# Altium integrated library CDE_Library.IntLib: 6171 symbols (part 2 of 25)
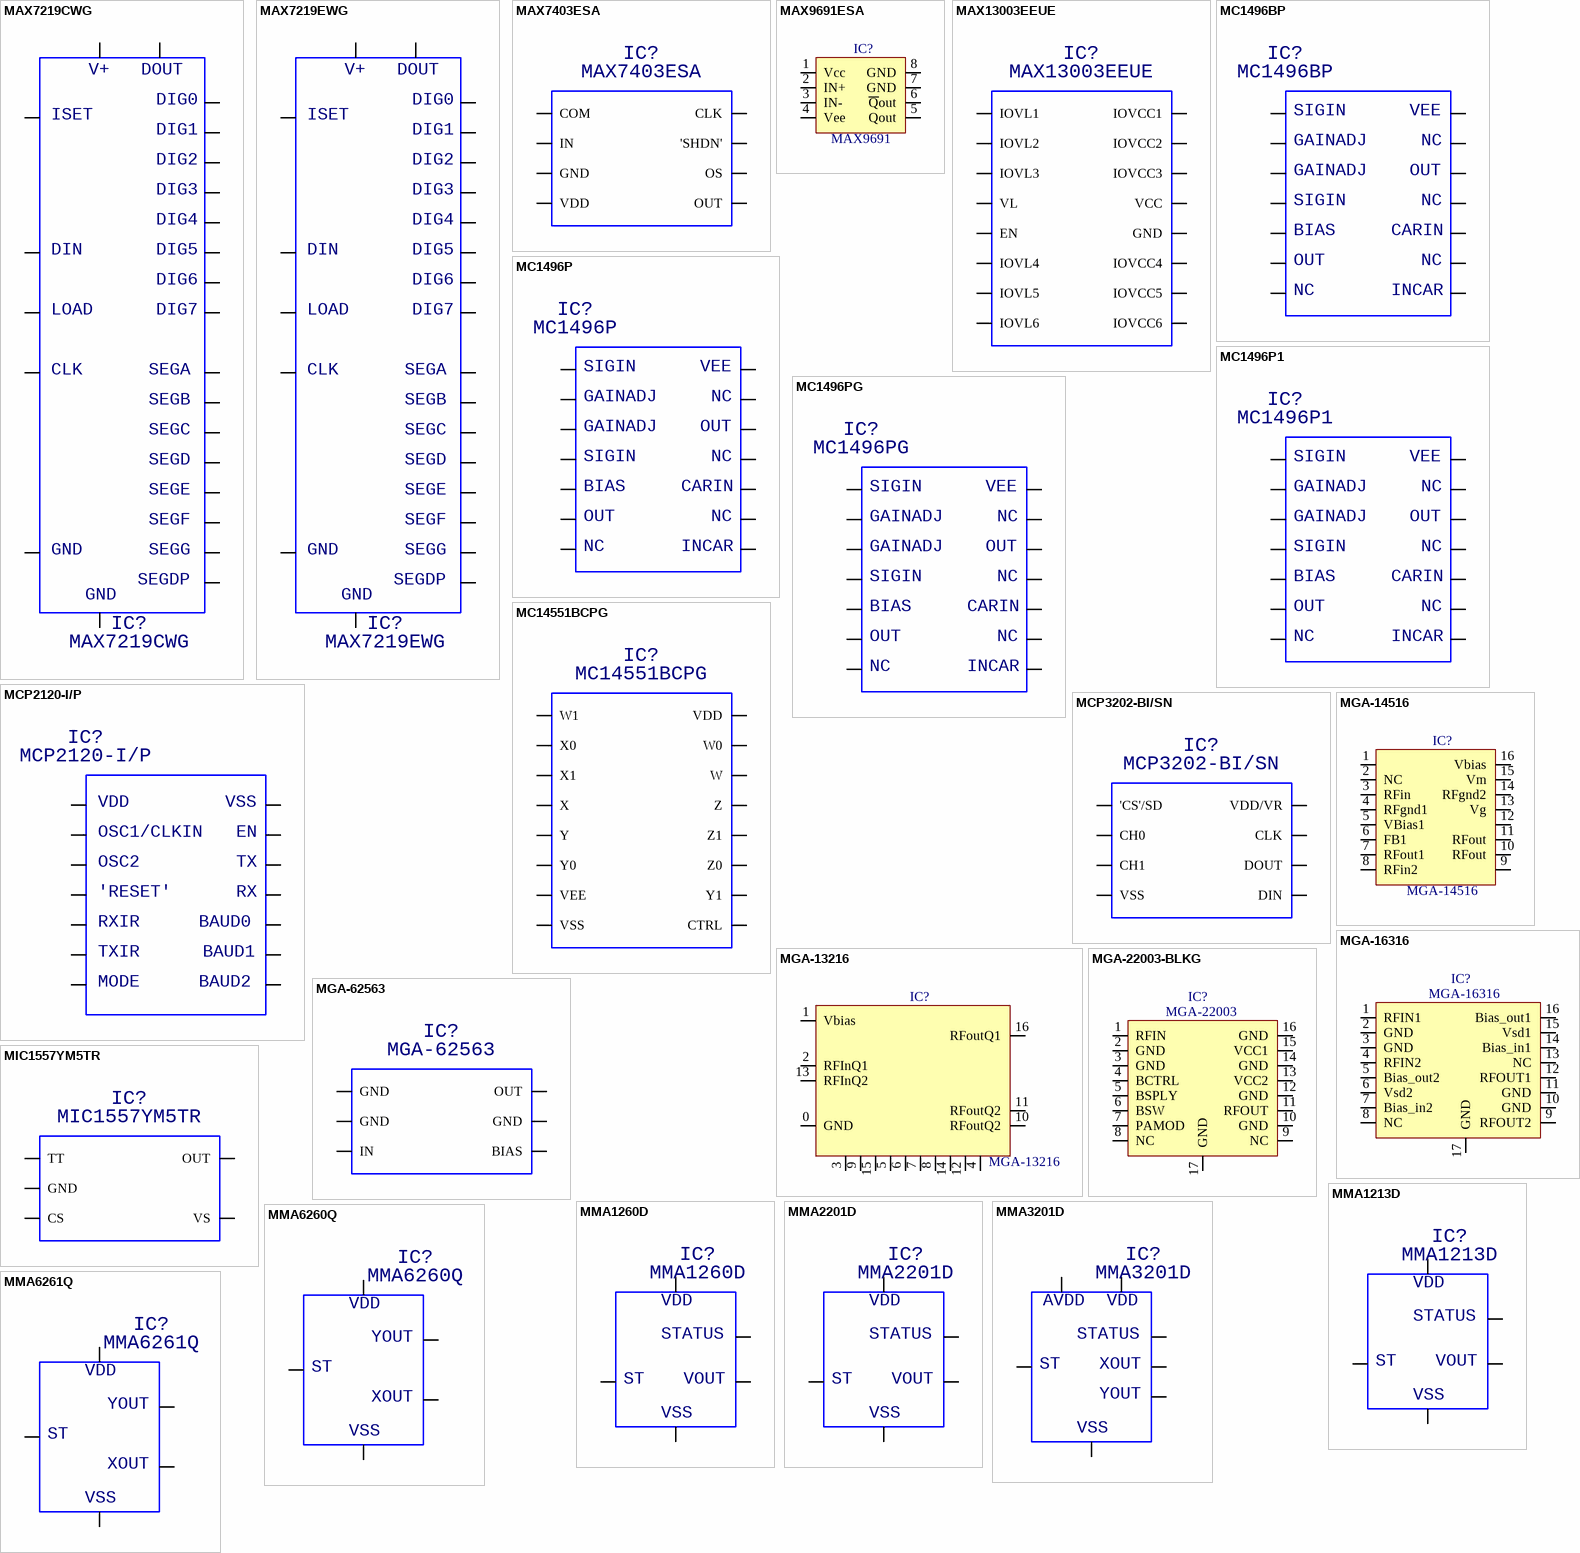
[diagram p258: symbols MAX7219CWG to MMA6261Q]

## MC1496BP
designator IC?
balanced modulators - demodulators
footprint icv DIP14-300
pins: 1, 2, 3, 4, 5, 6, 7, 8, 9, 10, 11, 12, 13, 14
text: SIGIN; VEE; GAINADJ; NC; OUT; BIAS; CARIN; INCAR

## MC1496P
designator IC?
balanced modulators - demodulators
footprint icv DIP14-300
pins: 1, 2, 3, 4, 5, 6, 7, 8, 9, 10, 11, 12, 13, 14
text: SIGIN; VEE; GAINADJ; NC; OUT; BIAS; CARIN; INCAR

## MC1496P1
designator IC?
balanced modulators - demodulators
footprint icv DIP14-300
pins: 1, 2, 3, 4, 5, 6, 7, 8, 9, 10, 11, 12, 13, 14
text: SIGIN; VEE; GAINADJ; NC; OUT; BIAS; CARIN; INCAR

## MC1496PG
designator IC?
balanced modulators - demodulators
footprint icv DIP14-300
pins: 1, 2, 3, 4, 5, 6, 7, 8, 9, 10, 11, 12, 13, 14
text: SIGIN; VEE; GAINADJ; NC; OUT; BIAS; CARIN; INCAR

## MC14551BCPG
designator IC?
Quad 2-Channel Analog Multiplexer/Demultiplexer
footprint icv DIP16-300
pins: 1 W1, 2 X0, 3 X1, 4 X, 5 Y, 6 Y0, 7 VEE, 8 VSS, 9 CTRL, 10 Y1, 11 Z0, 12 Z1, 13 Z, 14 W, 15 W0, 16 VDD

## MCP2120-I/P
designator IC?
infrared encoder/decoder
footprint icv DIP14-300
pins: 1, 2, 3, 4, 5, 6, 7, 8, 9, 10, 11, 12, 13, 14
text: VDD; VSS; OSC1/CLKIN; EN; OSC2; TX; 'RESET'; RX; RXIR; BAUD0; TXIR; BAUD1; MODE; BAUD2

## MCP3202-BI/SN
designator IC?
2.7V Dual Channel 12-Bit A/D Converter with SPI Serial Interface
footprint smd SOICN/8
pins: 1 'CS'/SD, 2 CH0, 3 CH1, 4 VSS, 5 DIN, 6 DOUT, 7 CLK, 8 VDD/VR

## MGA-13216
designator IC?
High Gain, High Linearity, Very Low Noise Amplifier
footprint SMD QFN/16 (4x4x0.85MM)
pins: 0 GND, 1 Vbias, 2 RFInQ1, 3, 4, 5, 6, 7, 8, 9, 10 RFoutQ2, 11 RFoutQ2, 12, 13 RFInQ2, 14, 15, 16 RFoutQ1

## MGA-14516
designator IC?
High Gain, High Linearity Active Bias Low Noise Amplifier
footprint SMD QFN/16 (4x4x0.85MM)
pins: 1, 2 NC, 3 RFin, 4 RFgnd1, 5 VBias1, 6 FB1, 7 RFout1, 8 RFin2, 9, 10 RFout, 11 RFout, 12, 13 Vg, 14 RFgnd2, 15 Vm, 16 Vbias

## MGA-16316
designator IC?
Dual LNA for Balanced Application 1950 – 4000 MHz
footprint SMD QFN/16 (4x4MM P0.65MM)
pins: 1 RFIN1, 2 GND, 3 GND, 4 RFIN2, 5 Bias_out2, 6 Vsd2, 7 Bias_in2, 8 NC, 9 RFOUT2, 10 GND, 11 GND, 12 RFOUT1, 13 NC, 14 Bias_in1, 15 Vsd1, 16 Bias_out1, 17 GND

## MGA-22003-BLKG
designator IC?, comment MGA-22003
2.3-2.7 GHz 3x3mm WiMAX and WiFi Power Amplifi er
footprint smd QFN/16 (3x3mm p0.5mm)
pins: 1 RFIN, 2 GND, 3 GND, 4 BCTRL, 5 BSPLY, 6 BSW, 7 PAMOD, 8 NC, 9 NC, 10 GND, 11 RFOUT, 12 GND, 13 VCC2, 14 GND, 15 VCC1, 16 GND, 17 GND

## MGA-62563
designator IC?
Current-Adjustable, Low Noise Amplifier
footprint smd SOT-363
pins: 1 GND, 2 GND, 3 IN, 4 BIAS, 5 GND, 6 OUT

## MIC1557YM5TR
designator IC?
IttyBitty RC Timer / Oscillator
footprint smd SOT-23/5p (body 1.6 wide, pitch 0.95mm)
pins: 1 TT, 2 GND, 3 CS, 4 VS, 5 OUT

## MMA1213D
designator IC?
accelerometer
footprint smd SOICW/16
pins: 4, 5, 6, 7, 8
text: VDD; STATUS; ST; VOUT; VSS

## MMA1260D
designator IC?
low G micromachined accelerometer, Motorola
footprint smd SOICW/16
pins: 4, 5, 6, 7, 8
text: VDD; STATUS; ST; VOUT; VSS

## MMA2201D
designator IC?
accelerometer
footprint smd SOICW/16
pins: 4, 5, 6, 7, 8
text: VDD; STATUS; ST; VOUT; VSS

## MMA3201D
designator IC?
accelerometer
footprint smd SOICW/20
pins: 5, 6, 7, 8, 9, 10, 11
text: AVDD; VDD; STATUS; ST; XOUT; YOUT; VSS

## MMA6260Q
designator IC?
accelerometer
footprint smd QFN/16
pins: 3, 4, 12, 14, 15
text: VDD; YOUT; ST; XOUT; VSS

## MMA6261Q
designator IC?
accelerometer
footprint smd QFN/16
pins: 3, 4, 12, 14, 15
text: VDD; YOUT; ST; XOUT; VSS

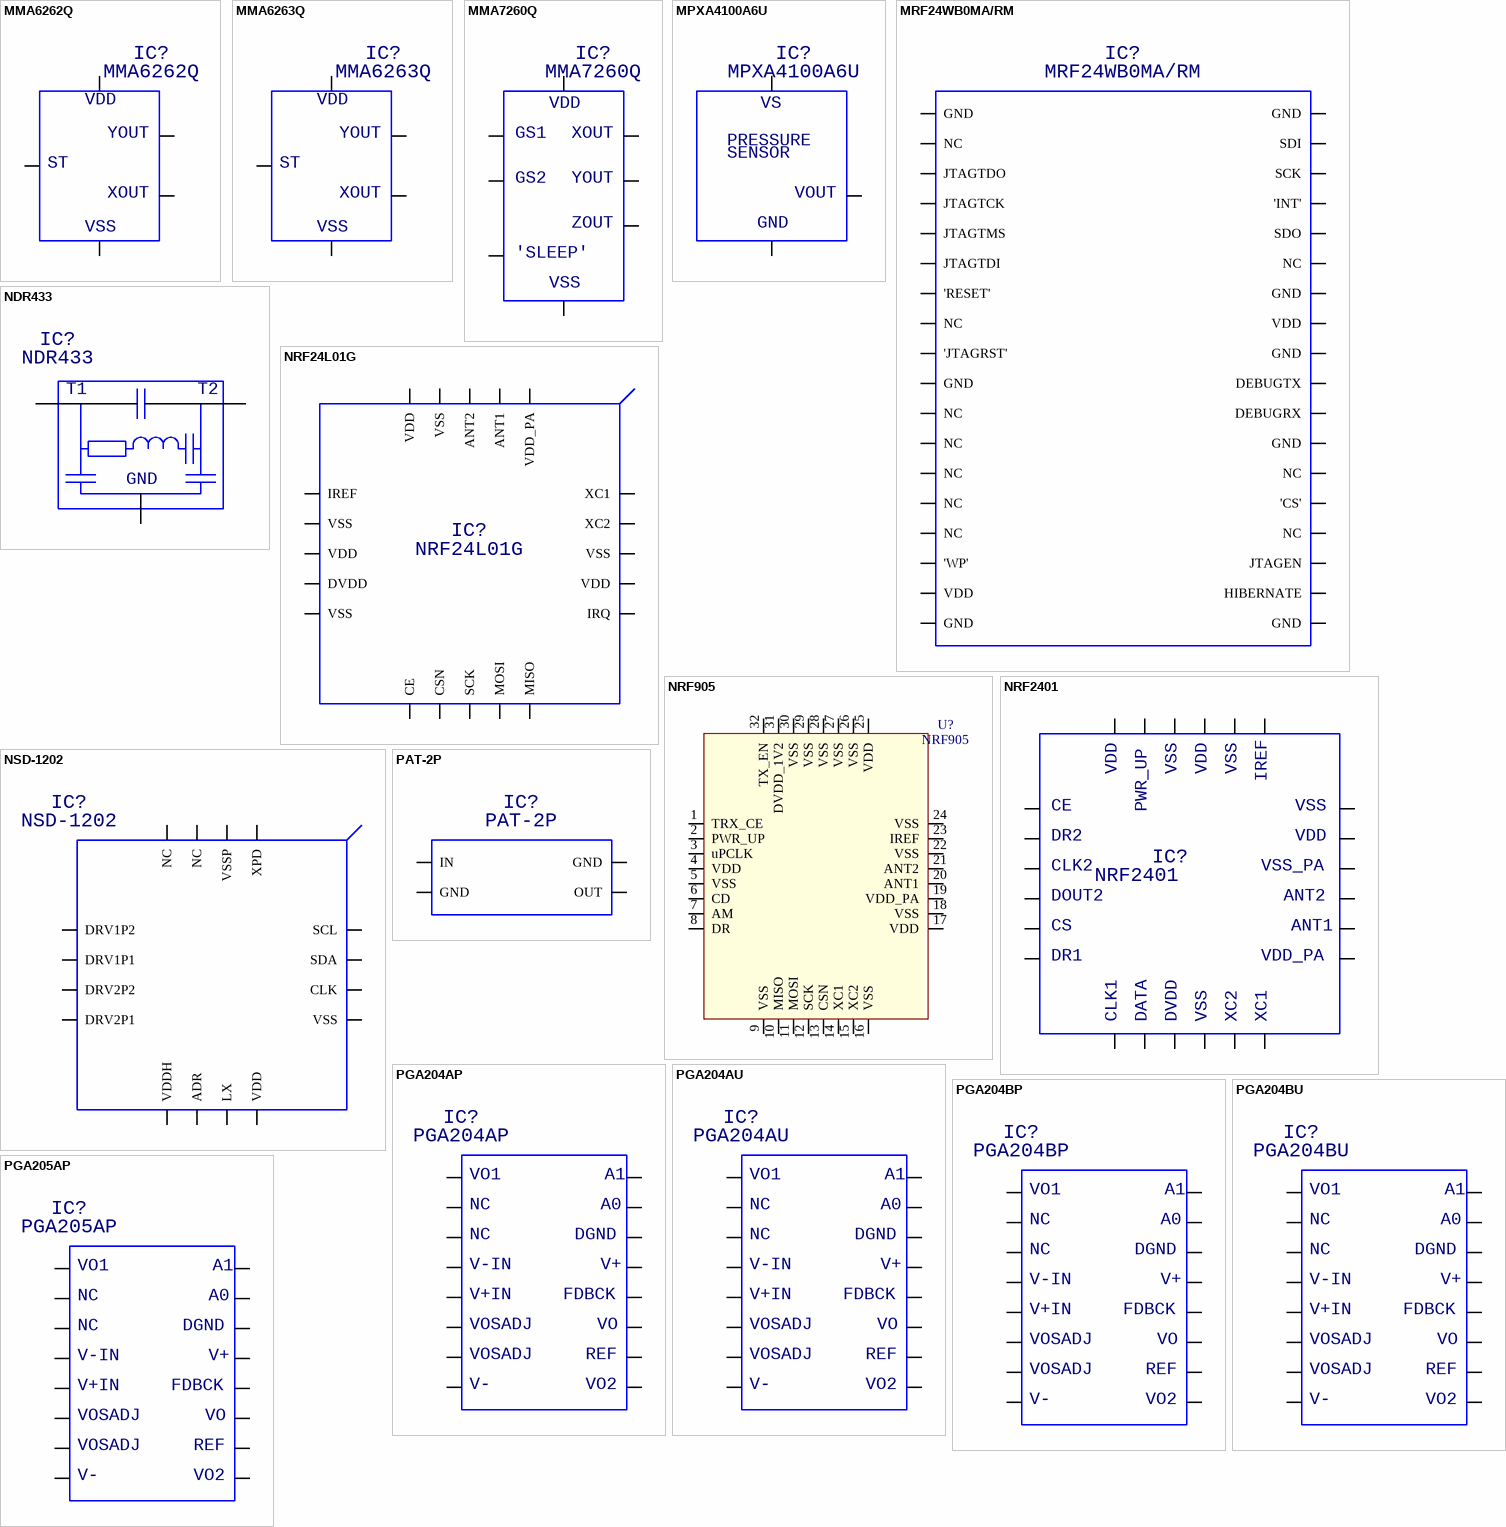
[diagram p14: symbols MMA6262Q to PGA205AP]

## MMA6262Q
designator IC?
accelerometer
footprint smd QFN/16
pins: 3, 4, 12, 14, 15
text: VDD; YOUT; ST; XOUT; VSS

## MMA6263Q
designator IC?
accelerometer
footprint smd QFN/16
pins: 3, 4, 12, 14, 15
text: VDD; YOUT; ST; XOUT; VSS

## MMA7260Q
designator IC?
accelerometer
footprint smd QFN/16
pins: 1, 2, 3, 4, 12, 13, 14, 15
text: VDD; GS1; XOUT; GS2; YOUT; ZOUT; 'SLEEP'; VSS

## MPXA4100A6U
designator IC?
integrated silicon pressure sensor, Motorola
footprint smd C482 (Motorola)
pins: 2, 3, 4
text: VS; PRESSURE; SENSOR; VOUT; GND

## MRF24WB0MA/RM
designator IC?
transceiver module
footprint smd MRF24WB0MA (Microchip)
pins: 1 GND, 2 NC, 3 JTAGTDO, 4 JTAGTCK, 5 JTAGTMS, 6 JTAGTDI, 7 'RESET', 8 NC, 9 'JTAGRST', 10 GND, 11 NC, 12 NC, 13 NC, 14 NC, 15 NC, 16 'WP', 17 VDD, 18 GND, 19 GND, 20 HIBERNATE, 21 JTAGEN, 22 NC, 23 'CS', 24 NC, 25 GND, 26 DEBUGRX, 27 DEBUGTX, 28 GND, 29 VDD, 30 GND, 31 NC, 32 SDO, 33 'INT', 34 SCK, 35 SDI, 36 GND

## NDR433
designator IC?
zaagtand resonator
footprint TO-39
pins: 1, 2, 3
text: T1; T2; GND

## NRF24L01G
designator IC?
Single Chip 2.4GHz Transceiver
footprint smd QFN/20 (4x4mm p0.50mm)
pins: 1 CE, 2 CSN, 3 SCK, 4 MOSI, 5 MISO, 6 IRQ, 7 VDD, 8 VSS, 9 XC2, 10 XC1, 11 VDD_PA, 12 ANT1, 13 ANT2, 14 VSS, 15 VDD, 16 IREF, 17 VSS, 18 VDD, 19 DVDD, 20 VSS, 21

## NRF905
designator U?
Single chip 433/868/915 MHz Transceiver
footprint smd QFN/32 (5x5mm pitch 0.5)
pins: 1 TRX_CE, 2 PWR_UP, 3 uPCLK, 4 VDD, 5 VSS, 6 CD, 7 AM, 8 DR, 9 VSS, 10 MISO, 11 MOSI, 12 SCK, 13 CSN, 14 XC1, 15 XC2, 16 VSS, 17 VDD, 18 VSS, 19 VDD_PA, 20 ANT1, 21 ANT2, 22 VSS, 23 IREF, 24 VSS, 25 VDD, 26 VSS, 27 VSS, 28 VSS, 29 VSS, 30 VSS, 31 DVDD_1V2, 32 TX_EN

## NRF2401
designator IC?
single chip 2.4GHz radio transceiver
footprint smd QFN/24
pins: 1, 2, 3, 4, 5, 6, 7, 8, 9, 10, 11, 12, 13, 14, 15, 16, 17, 18, 19, 20, 21, 22, 23, 24
text: VDD; VSS; IREF; PWR_UP; CE; DR2; CLK2; VSS_PA; DOUT2; ANT2; CS; ANT1; DR1; VDD_PA; CLK1; DATA; DVDD; XC2; XC1

## NSD-1202
designator IC?
dual piezo motor driver asic
footprint smd QFN/16 (4x4x0.75mm p0.65mm)
pins: 1 VDDH, 2 ADR, 3 LX, 4 VDD, 5 VSS, 6 CLK, 7 SDA, 8 SCL, 9 XPD, 10 VSSP, 11 NC, 12 NC, 13 DRV1P2, 14 DRV1P1, 15 DRV2P2, 16 DRV2P1, 17

## PAT-2P
designator IC?
fixed attenuator
footprint smd AF320
pins: 1 IN, 2 GND, 3 OUT, 4 GND

## PGA204AP
designator IC?
programmable gain instrumentation amplifier
footprint icv DIP16-300
pins: 1, 2, 3, 4, 5, 6, 7, 8, 9, 10, 11, 12, 13, 14, 15, 16
text: VO1; A1; NC; A0; DGND; V-IN; V+; V+IN; FDBCK; VOSADJ; VO; REF; V-; VO2

## PGA204AU
designator IC?
programmable gain instrumentation amplifier
footprint smd SOICW/16
pins: 1, 2, 3, 4, 5, 6, 7, 8, 9, 10, 11, 12, 13, 14, 15, 16
text: VO1; A1; NC; A0; DGND; V-IN; V+; V+IN; FDBCK; VOSADJ; VO; REF; V-; VO2

## PGA204BP
designator IC?
programmable gain instrumentation amplifier
footprint icv DIP16-300
pins: 1, 2, 3, 4, 5, 6, 7, 8, 9, 10, 11, 12, 13, 14, 15, 16
text: VO1; A1; NC; A0; DGND; V-IN; V+; V+IN; FDBCK; VOSADJ; VO; REF; V-; VO2

## PGA204BU
designator IC?
programmable gain instrumentation amplifier
footprint smd SOICW/16
pins: 1, 2, 3, 4, 5, 6, 7, 8, 9, 10, 11, 12, 13, 14, 15, 16
text: VO1; A1; NC; A0; DGND; V-IN; V+; V+IN; FDBCK; VOSADJ; VO; REF; V-; VO2

## PGA205AP
designator IC?
programmable gain instrumentation amplifier
footprint icv DIP16-300
pins: 1, 2, 3, 4, 5, 6, 7, 8, 9, 10, 11, 12, 13, 14, 15, 16
text: VO1; A1; NC; A0; DGND; V-IN; V+; V+IN; FDBCK; VOSADJ; VO; REF; V-; VO2

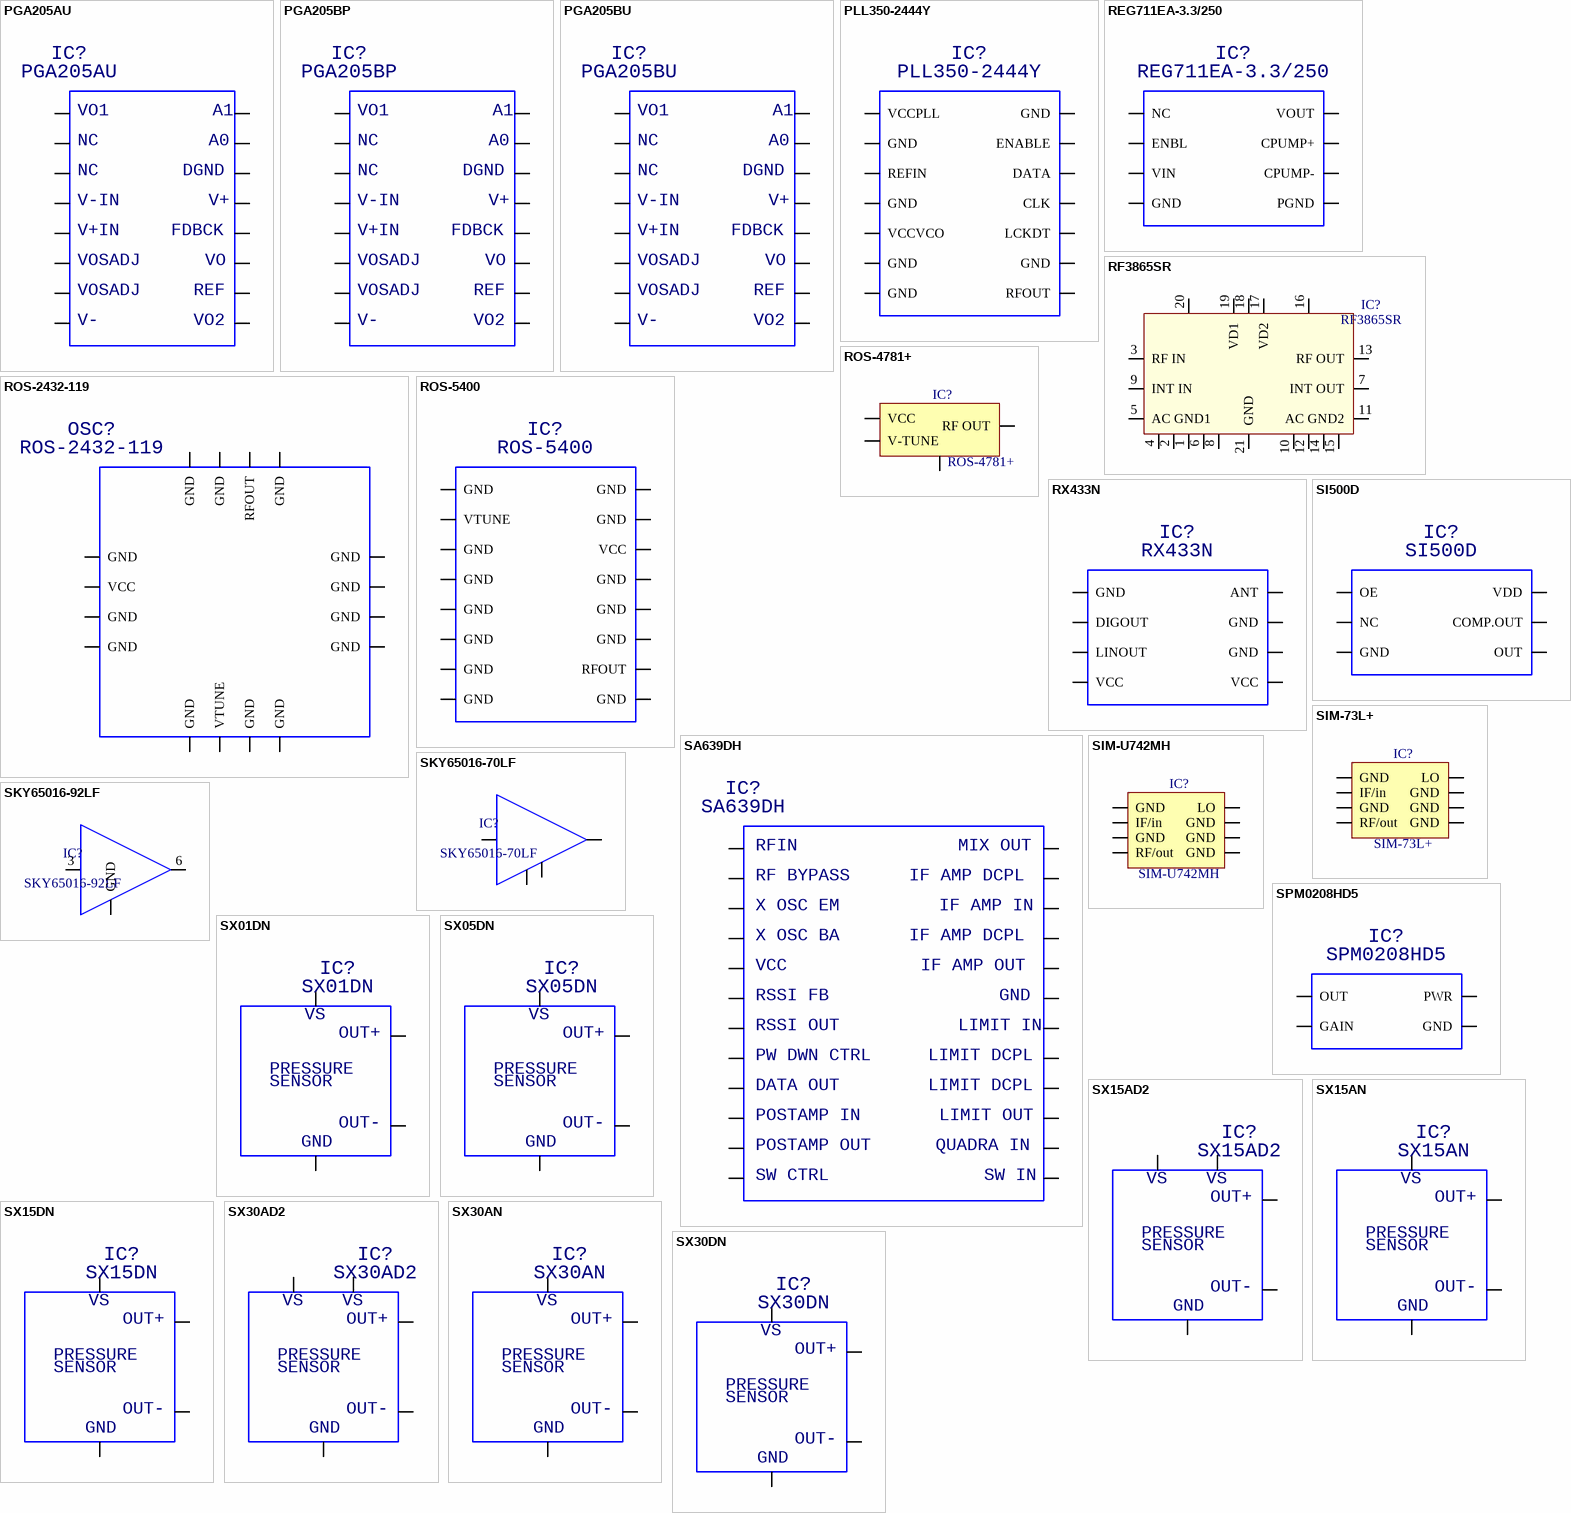
[diagram p15: symbols PGA205AU to SX30DN]

## PGA205AU
designator IC?
programmable gain instrumentation amplifier
footprint smd SOICW/16
pins: 1, 2, 3, 4, 5, 6, 7, 8, 9, 10, 11, 12, 13, 14, 15, 16
text: VO1; A1; NC; A0; DGND; V-IN; V+; V+IN; FDBCK; VOSADJ; VO; REF; V-; VO2

## PGA205BP
designator IC?
programmable gain instrumentation amplifier
footprint icv DIP16-300
pins: 1, 2, 3, 4, 5, 6, 7, 8, 9, 10, 11, 12, 13, 14, 15, 16
text: VO1; A1; NC; A0; DGND; V-IN; V+; V+IN; FDBCK; VOSADJ; VO; REF; V-; VO2

## PGA205BU
designator IC?
programmable gain instrumentation amplifier
footprint smd SOICW/16
pins: 1, 2, 3, 4, 5, 6, 7, 8, 9, 10, 11, 12, 13, 14, 15, 16
text: VO1; A1; NC; A0; DGND; V-IN; V+; V+IN; FDBCK; VOSADJ; VO; REF; V-; VO2

## PLL350-2444Y
designator IC?
PLL
footprint smd PLL350 (Sirenza Microdevices)
pins: 1 VCCPLL, 2 GND, 3 REFIN, 4 GND, 5 VCCVCO, 6 GND, 7 GND, 8 RFOUT, 9 GND, 10 LCKDT, 11 CLK, 12 DATA, 13 ENABLE, 14 GND

## REG711EA-3.3/250
designator IC?
50mA switched-cap DC/DC converter
footprint smd MSOP/8
pins: 1 NC, 2 ENBL, 3 VIN, 4 GND, 5 PGND, 6 CPUMP-, 7 CPUMP+, 8 VOUT

## RF3865SR
designator IC?
Low noise amp, 0.4 - 3.8GHz
footprint smd QFN/20-REFLOW (5x5mm p0.65mm)
pins: 1 NC, 2 NC, 3 RF IN, 4 NC, 5 AC GND1, 6 NC, 7 INT OUT, 8 NC, 9 INT IN, 10 NC, 11 AC GND2, 12 NC, 13 RF OUT, 14 NC, 15 NC, 16 NC, 17 VD2, 18 NC, 19 VD1, 20 NC, 21 GND

## ROS-2432-119
designator OSC?
voltage controlled oscillator
footprint smd CK605 (MiniCircuits)
pins: 1 GND, 2 VTUNE, 3 GND, 4 GND, 5 GND, 6 GND, 7 GND, 8 GND, 9 GND, 10 RFOUT, 11 GND, 12 GND, 13 GND, 14 VCC, 15 GND, 16 GND

## ROS-4781+
designator IC?
Voltage Controlled Oscillator
footprint smd CK605 (MiniCircuits)
pins: 1 GND, 2 V-TUNE, 3 GND, 4 GND, 5 GND, 6 GND, 7 GND, 8 GND, 9 GND, 10 RF OUT, 11 GND, 12 GND, 13 GND, 14 VCC, 15 GND, 16 GND

## ROS-5400
designator IC?
VCO, Linear tuning
footprint smd IC CK1113
pins: 1 GND, 2 VTUNE, 3 GND, 4 GND, 5 GND, 6 GND, 7 GND, 8 GND, 9 GND, 10 RFOUT, 11 GND, 12 GND, 13 GND, 14 VCC, 15 GND, 16 GND

## RX433N
designator IC?
receiver module Velleman
footprint receiver RX433N (Velleman)
pins: 1 GND, 2 DIGOUT, 3 LINOUT, 4 VCC, 5 VCC, 6 GND, 7 GND, 8 ANT

## SA639DH
designator IC?
low voltage mixer FM IF system
footprint smd TSSOP/24 (body 4.4 pitch 0.65)
pins: 1, 2, 3, 4, 5, 6, 7, 8, 9, 10, 11, 12, 13, 14, 15, 16, 17, 18, 19, 20, 21, 22, 23, 24
text: RFIN; MIX OUT; RF BYPASS; IF AMP DCPL; X OSC EM; IF AMP IN; X OSC BA; VCC; IF AMP OUT; RSSI FB; GND; RSSI OUT; LIMIT IN; PW DWN CTRL; LIMIT DCPL; DATA OUT; POSTAMP IN; LIMIT OUT; POSTAMP OUT; QUADRA IN; SW CTRL; SW IN

## SI500D
designator IC?
differential output silicon oscillator
footprint smd Si500D (Silicon Labs)
pins: 1 OE, 2 NC, 3 GND, 4 OUT, 5 COMP.OUT, 6 VDD

## SIM-73L+
designator IC?
Frequency mixer
footprint smd IC HV1195 (SIM-U742MH+)
pins: 1 GND, 2 IF/in, 3 GND, 4 RF/out, 5 GND, 6 GND, 7 GND, 8 LO

## SIM-U742MH
designator IC?
Frequency mixer
footprint smd IC HV1195 (SIM-U742MH+)
pins: 1 GND, 2 IF/in, 3 GND, 4 RF/out, 5 GND, 6 GND, 7 GND, 8 LO

## SKY65016-70LF
designator IC?
InGaP Cascadable Amplifier  LF 3 GHz
footprint smd SOT-89
pins: 1, 2 GND, 3 GND, 4 GND

## SKY65016-92LF
designator IC?
InGaP Cascadable Amplifier  LF 3 GHz
footprint smd SC-70 (6-pin)
pins: 1 GND, 2, 3, 4, 5 GND, 6

## SPM0208HD5
designator IC?
Thin Amplified Mini SiSonic Microphone
footprint microfoon SPM0208HD5
pins: 1 OUT, 2 GAIN, 3 GND, 4 PWR

## SX01DN
designator IC?
pressure sensor SenSym
footprint druksensor (SenSym SXxxxxN)
pins: 1, 2, 3, 4
text: VS; OUT+; PRESSURE; SENSOR; OUT-; GND

## SX05DN
designator IC?
pressure sensor SenSym
footprint druksensor (SenSym SXxxxxN)
pins: 1, 2, 3, 4
text: VS; OUT+; PRESSURE; SENSOR; OUT-; GND

## SX15AD2
designator IC?
pressure sensor SenSym
footprint druksensor (SenSym SXxxxD2)
pins: 1, 2, 3, 4, 6
text: VS; OUT+; PRESSURE; SENSOR; OUT-; GND

## SX15AN
designator IC?
pressure sensor SenSym
footprint druksensor (SenSym SXxxxxN)
pins: 1, 2, 3, 4
text: VS; OUT+; PRESSURE; SENSOR; OUT-; GND

## SX15DN
designator IC?
pressure sensor SenSym
footprint druksensor (SenSym SXxxxxN)
pins: 1, 2, 3, 4
text: VS; OUT+; PRESSURE; SENSOR; OUT-; GND

## SX30AD2
designator IC?
pressure sensor SenSym
footprint druksensor (SenSym SXxxxD2)
pins: 1, 2, 3, 4, 6
text: VS; OUT+; PRESSURE; SENSOR; OUT-; GND

## SX30AN
designator IC?
pressure sensor SenSym
footprint druksensor (SenSym SXxxxxN)
pins: 1, 2, 3, 4
text: VS; OUT+; PRESSURE; SENSOR; OUT-; GND

## SX30DN
designator IC?
pressure sensor SenSym
footprint druksensor (SenSym SXxxxxN)
pins: 1, 2, 3, 4
text: VS; OUT+; PRESSURE; SENSOR; OUT-; GND

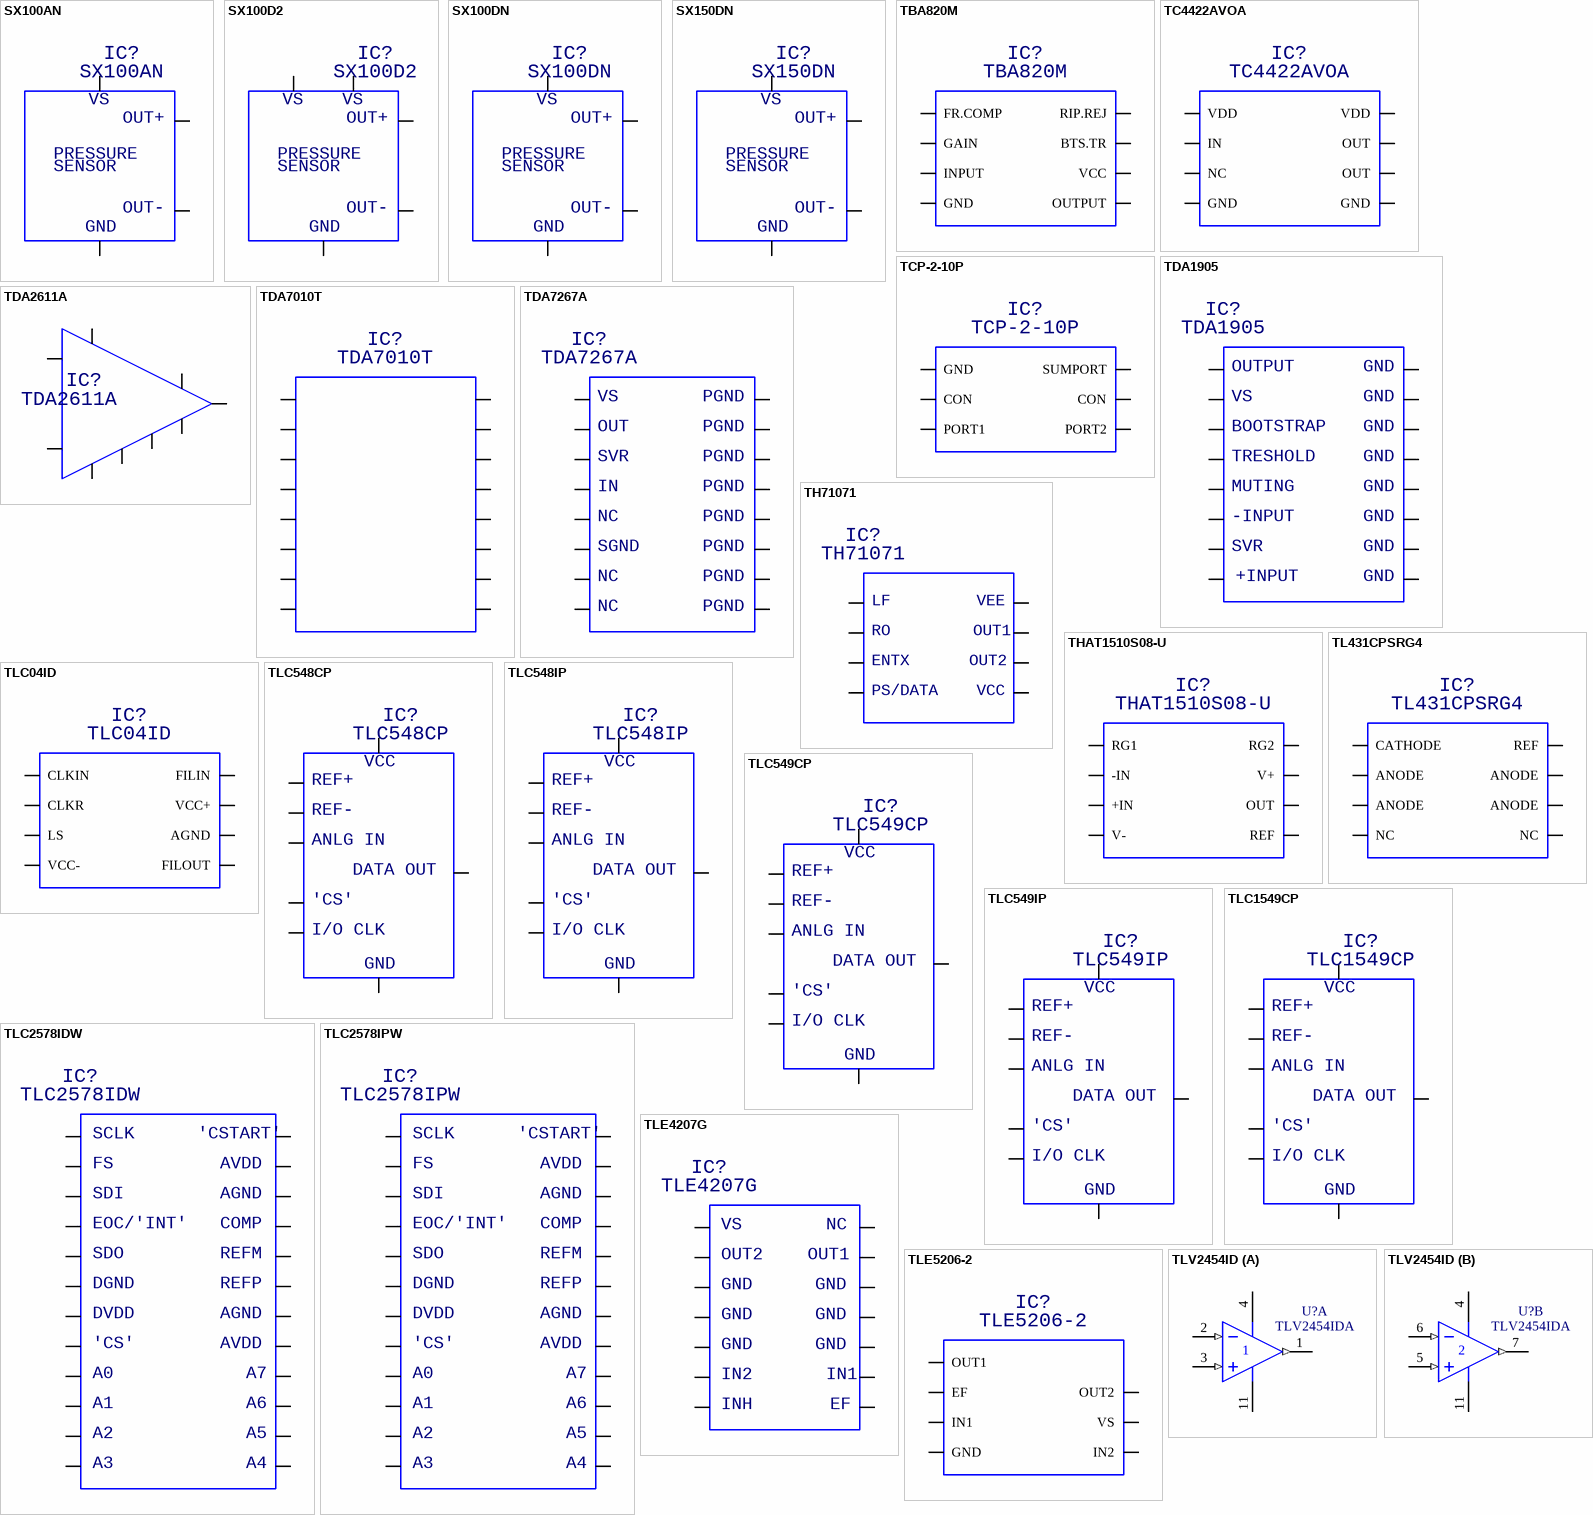
[diagram p16: symbols SX100AN to TLV2454ID]

## SX100AN
designator IC?
pressure sensor SenSym
footprint druksensor (SenSym SXxxxxN)
pins: 1, 2, 3, 4
text: VS; OUT+; PRESSURE; SENSOR; OUT-; GND

## SX100D2
designator IC?
pressure sensor SenSym
footprint druksensor (SenSym SXxxxD2)
pins: 1, 2, 3, 4, 6
text: VS; OUT+; PRESSURE; SENSOR; OUT-; GND

## SX100DN
designator IC?
pressure sensor SenSym
footprint druksensor (SenSym SXxxxxN)
pins: 1, 2, 3, 4
text: VS; OUT+; PRESSURE; SENSOR; OUT-; GND

## SX150DN
designator IC?
pressure sensor SenSym
footprint druksensor (SenSym SXxxxxN)
pins: 1, 2, 3, 4
text: VS; OUT+; PRESSURE; SENSOR; OUT-; GND

## TBA820M
designator IC?
1.2W audio amplifier
footprint icv DIP8-300
pins: 1 FR.COMP, 2 GAIN, 3 INPUT, 4 GND, 5 OUTPUT, 6 VCC, 7 BTS.TR, 8 RIP.REJ

## TC4422AVOA
designator IC?
9A high-speed mosfet driver
footprint smd SOICN/8
pins: 1 VDD, 2 IN, 3 NC, 4 GND, 5 GND, 6 OUT, 7 OUT, 8 VDD

## TCP-2-10P
designator IC?
power splitter-combiner
footprint smd DB714
pins: 1 GND, 2 CON, 3 PORT1, 4 PORT2, 5 CON, 6 SUMPORT

## TDA1905
designator IC?
5W audio amplifier
footprint icv DIP16-300
pins: 1, 2, 3, 4, 5, 6, 7, 8, 9, 10, 11, 12, 13, 14, 15, 16
text: OUTPUT; GND; VS; BOOTSTRAP; TRESHOLD; MUTING; -INPUT; SVR; +INPUT

## TDA2611A
designator IC?
audio power amplifier 5W
footprint SOT110-1
pins: 1, 2, 3, 4, 5, 6, 7, 8, 9

## TDA7010T
designator IC?
FM radio circuit
footprint smd SOICN/16
pins: 1, 2, 3, 4, 5, 6, 7, 8, 9, 10, 11, 12, 13, 14, 15, 16

## TDA7267A
designator IC?
3W mono amplifier
footprint icv DIP16-300
pins: 1, 2, 3, 4, 5, 6, 7, 8, 9, 10, 11, 12, 13, 14, 15, 16
text: VS; PGND; OUT; SVR; IN; NC; SGND

## TH71071
designator IC?
315/433MHz ASK transmitter, Melexis
footprint smd SOICN/8
pins: 1, 2, 3, 4, 5, 6, 7, 8
text: LF; VEE; RO; OUT1; ENTX; OUT2; PS/DATA; VCC

## THAT1510S08-U
designator IC?
microphone preamp
footprint smd SOICN/8
pins: 1 RG1, 2 -IN, 3 +IN, 4 V-, 5 REF, 6 OUT, 7 V+, 8 RG2

## TL431CPSRG4
designator IC?
Adjustable Precision Shunt Regulator
footprint smd SOICN/8
pins: 1 CATHODE, 2 ANODE, 3 ANODE, 4 NC, 5 NC, 6 ANODE, 7 ANODE, 8 REF

## TLC04ID
designator IC?
Butterworth 4th-order low-pass switched-cap filter
footprint smd SOICN/8
pins: 1 CLKIN, 2 CLKR, 3 LS, 4 VCC-, 5 FILOUT, 6 AGND, 7 VCC+, 8 FILIN

## TLC548CP
designator IC?
8-bit A/D converter, serial control
footprint icv DIP8-300
pins: 1, 2, 3, 4, 5, 6, 7, 8
text: VCC; REF+; REF-; ANLG IN; DATA OUT; 'CS'; I/O CLK; GND

## TLC548IP
designator IC?
8-bit A/D converter, serial control
footprint icv DIP8-300
pins: 1, 2, 3, 4, 5, 6, 7, 8
text: VCC; REF+; REF-; ANLG IN; DATA OUT; 'CS'; I/O CLK; GND

## TLC549CP
designator IC?
8-bit A/D converter, serial control
footprint icv DIP8-300
pins: 1, 2, 3, 4, 5, 6, 7, 8
text: VCC; REF+; REF-; ANLG IN; DATA OUT; 'CS'; I/O CLK; GND

## TLC549IP
designator IC?
8-bit A/D converter, serial control
footprint icv DIP8-300
pins: 1, 2, 3, 4, 5, 6, 7, 8
text: VCC; REF+; REF-; ANLG IN; DATA OUT; 'CS'; I/O CLK; GND

## TLC1549CP
designator IC?
10-bit A/D converter, serial control
footprint icv DIP8-300
pins: 1, 2, 3, 4, 5, 6, 7, 8
text: VCC; REF+; REF-; ANLG IN; DATA OUT; 'CS'; I/O CLK; GND

## TLC2578IDW
designator IC?
12-bit A/D converter, serial control
footprint smd SOICW/24
pins: 1, 2, 3, 4, 5, 6, 7, 8, 9, 10, 11, 12, 13, 14, 15, 16, 17, 18, 19, 20, 21, 22, 23, 24
text: SCLK; 'CSTART'; FS; AVDD; SDI; AGND; EOC/'INT'; COMP; SDO; REFM; DGND; REFP; DVDD; 'CS'; A0; A7; A1; A6; A2; A5; A3; A4

## TLC2578IPW
designator IC?
12-bit A/D converter, serial control
footprint smd TSSOP/24 (body 4.4 pitch 0.65)
pins: 1, 2, 3, 4, 5, 6, 7, 8, 9, 10, 11, 12, 13, 14, 15, 16, 17, 18, 19, 20, 21, 22, 23, 24
text: SCLK; 'CSTART'; FS; AVDD; SDI; AGND; EOC/'INT'; COMP; SDO; REFM; DGND; REFP; DVDD; 'CS'; A0; A7; A1; A6; A2; A5; A3; A4

## TLE4207G
designator IC?
dual half bridge driver
footprint smd SOICN/14
pins: 1, 2, 3, 4, 5, 6, 7, 8, 9, 10, 11, 12, 13, 14
text: VS; NC; OUT2; OUT1; GND; IN2; IN1; INH; EF

## TLE5206-2
designator IC?
5A H-bridge for DC motor
footprint TO-220 7pin
pins: 1 OUT1, 2 EF, 3 IN1, 4 GND, 5 IN2, 6 VS, 7 OUT2

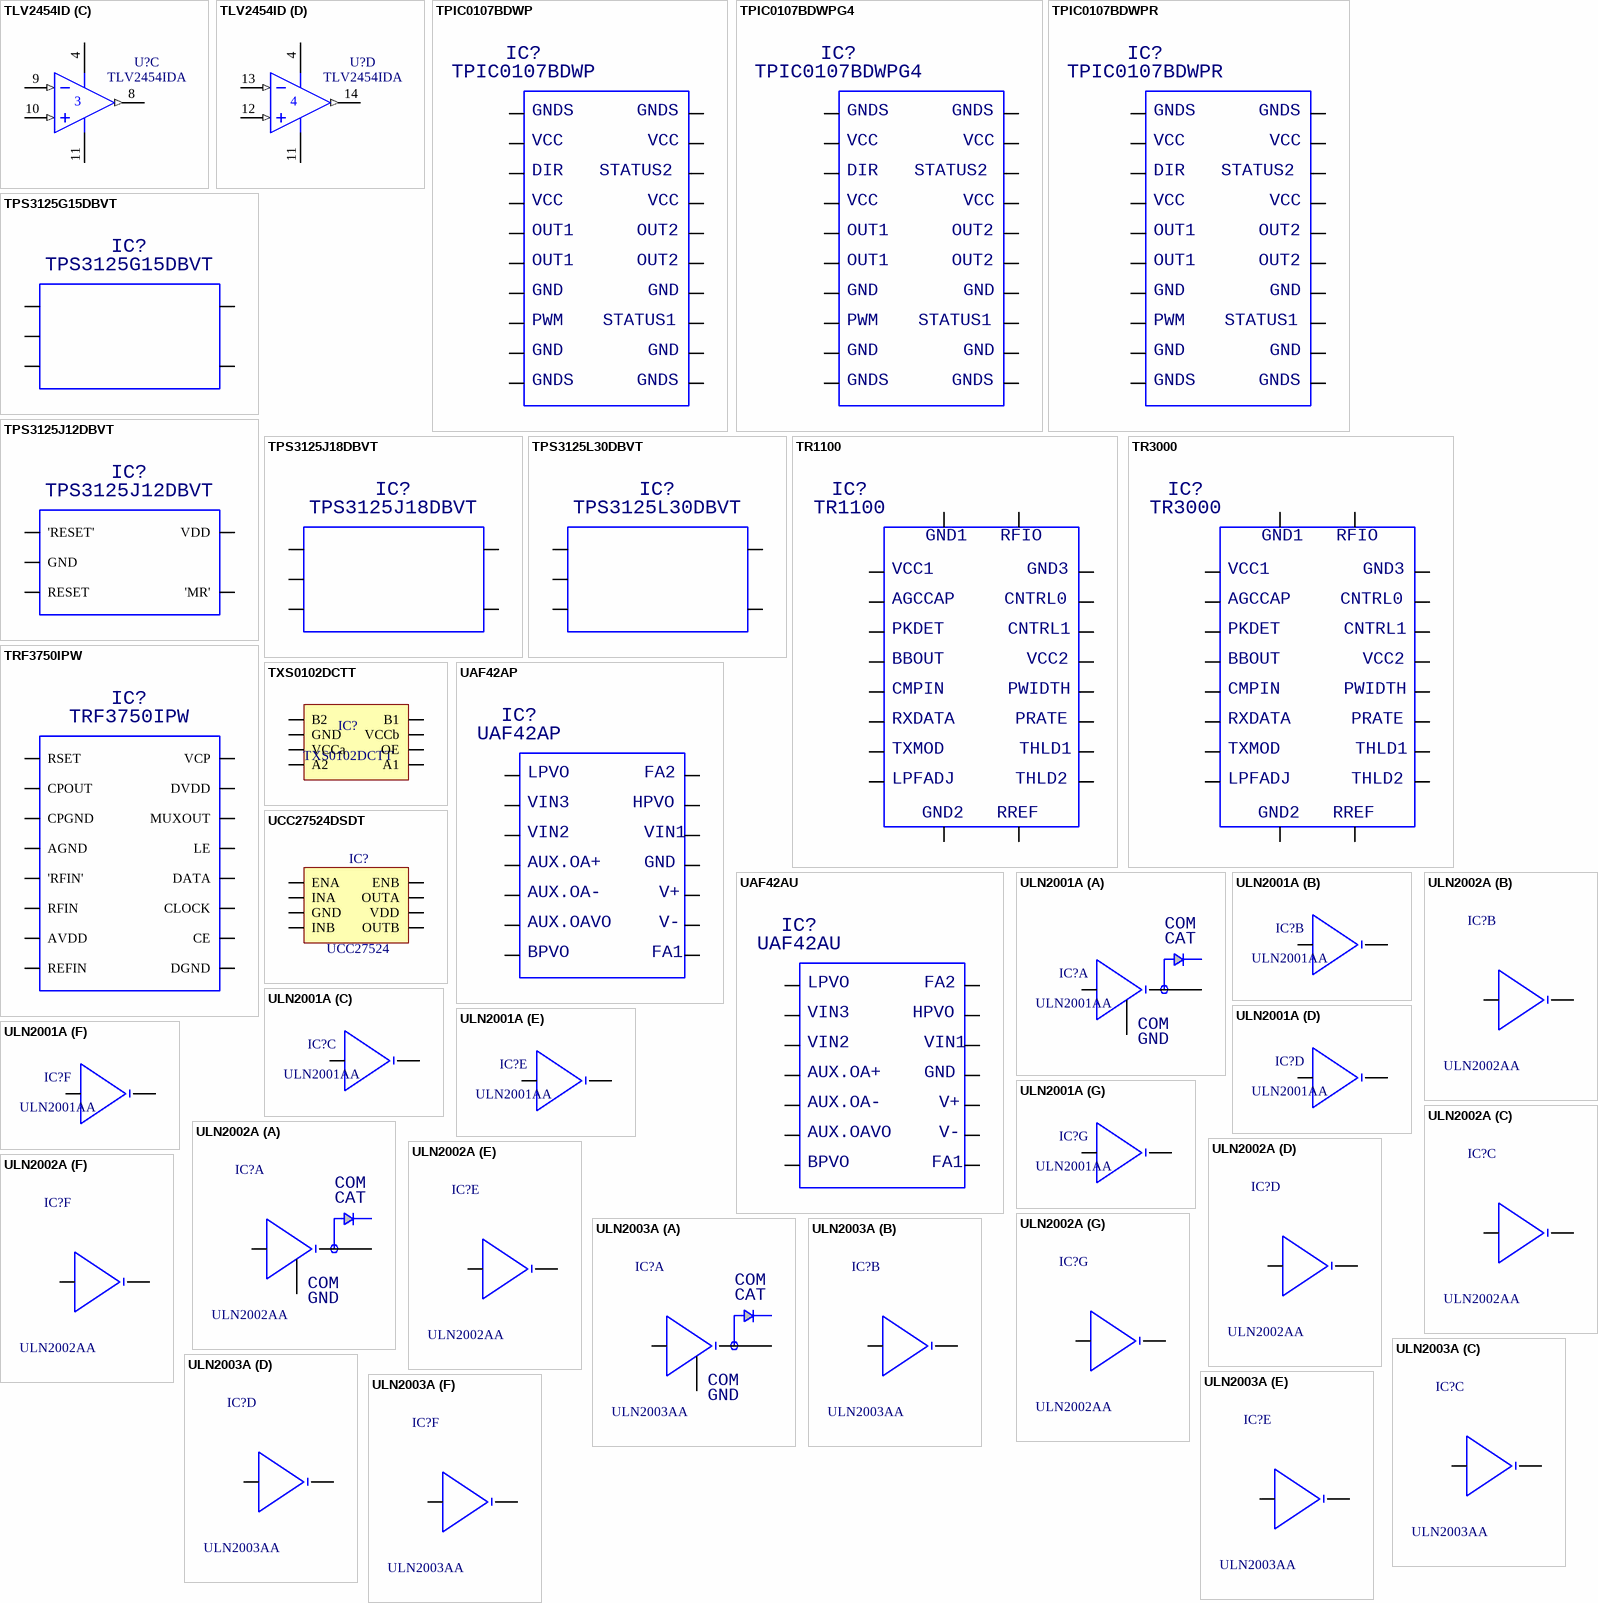
[diagram p17: symbols TLV2454ID to ULN2003A]

## TLV2454ID
designator U?, comment TLV2454IDA
Quadruple Operational Amplifier
footprint smd SOICN/14
pins on every part: 4 V+ (power), 11 V- (power)
part A pins: 1 OUT (out), 2 IN- (in), 3 IN+ (in)
part B pins: 5 IN+ (in), 6 IN- (in), 7 OUT (out)
part C pins: 8 OUT (out), 9 IN- (in), 10 IN+ (in)
part D pins: 12 IN+ (in), 13 IN- (in), 14 OUT (out)

## TPIC0107BDWP
designator IC?
pwm control intelligent H-bridge
footprint smd SOICW/20
pins: 1, 2, 3, 4, 5, 6, 7, 8, 9, 10, 11, 12, 13, 14, 15, 16, 17, 18, 19, 20
text: GNDS; VCC; DIR; STATUS2; OUT1; OUT2; GND; PWM; STATUS1

## TPIC0107BDWPG4
designator IC?
pwm control intelligent H-bridge
footprint smd SOICW/20
pins: 1, 2, 3, 4, 5, 6, 7, 8, 9, 10, 11, 12, 13, 14, 15, 16, 17, 18, 19, 20
text: GNDS; VCC; DIR; STATUS2; OUT1; OUT2; GND; PWM; STATUS1

## TPIC0107BDWPR
designator IC?
pwm control intelligent H-bridge
footprint smd SOICW/20
pins: 1, 2, 3, 4, 5, 6, 7, 8, 9, 10, 11, 12, 13, 14, 15, 16, 17, 18, 19, 20
text: GNDS; VCC; DIR; STATUS2; OUT1; OUT2; GND; PWM; STATUS1

## TPS3125G15DBVT
designator IC?
ultra-low voltage processor supervisory circuit
footprint smd SOT-23/5p (body 1.6 wide, pitch 0.95mm)
pins: 1 'RESET', 2 GND, 3 RESET, 4 'MR', 5 VDD

## TPS3125J12DBVT
designator IC?
ultra-low voltage processor supervisory circuit
footprint smd SOT-23/5p (body 1.6 wide, pitch 0.95mm)
pins: 1 'RESET', 2 GND, 3 RESET, 4 'MR', 5 VDD

## TPS3125J18DBVT
designator IC?
ultra-low voltage processor supervisory circuit
footprint smd SOT-23/5p (body 1.6 wide, pitch 0.95mm)
pins: 1 'RESET', 2 GND, 3 RESET, 4 'MR', 5 VDD

## TPS3125L30DBVT
designator IC?
ultra-low voltage processor supervisory circuit
footprint smd SOT-23/5p (body 1.6 wide, pitch 0.95mm)
pins: 1 'RESET', 2 GND, 3 RESET, 4 'MR', 5 VDD

## TR1100
designator IC?
hybrid transceiver 916.5 MHz
footprint SM-20H
pins: 1, 2, 3, 4, 5, 6, 7, 8, 9, 10, 11, 12, 13, 14, 15, 16, 17, 18, 19, 20
text: GND1; RFIO; VCC1; GND3; AGCCAP; CNTRL0; PKDET; CNTRL1; BBOUT; VCC2; CMPIN; PWIDTH; RXDATA; PRATE; TXMOD; THLD1; LPFADJ; THLD2; GND2; RREF

## TR3000
designator IC?
hybrid transceiver 433.92 MHz
footprint SM-20L
pins: 1, 2, 3, 4, 5, 6, 7, 8, 9, 10, 11, 12, 13, 14, 15, 16, 17, 18, 19, 20
text: GND1; RFIO; VCC1; GND3; AGCCAP; CNTRL0; PKDET; CNTRL1; BBOUT; VCC2; CMPIN; PWIDTH; RXDATA; PRATE; TXMOD; THLD1; LPFADJ; THLD2; GND2; RREF

## TRF3750IPW
designator IC?
high performance integer-N PLL frequency synthesizer
footprint smd TSSOP/16 (body 4.4 pitch 0.65)
pins: 1 RSET, 2 CPOUT, 3 CPGND, 4 AGND, 5 'RFIN', 6 RFIN, 7 AVDD, 8 REFIN, 9 DGND, 10 CE, 11 CLOCK, 12 DATA, 13 LE, 14 MUXOUT, 15 DVDD, 16 VCP

## TXS0102DCTT
designator IC?
2-BIT BIDIRECTIONAL VOLTAGE-LEVEL TRANSLATOR
footprint smd SSOP/8
pins: 1 B2, 2 GND, 3 VCCa, 4 A2, 5 A1, 6 OE, 7 VCCb, 8 B1

## UAF42AP
designator IC?
universal active filter
footprint icv DIP14-300
pins: 1, 2, 3, 4, 5, 6, 7, 8, 9, 10, 11, 12, 13, 14
text: LPVO; FA2; VIN3; HPVO; VIN2; VIN1; AUX.OA+; GND; AUX.OA-; V+; AUX.OAVO; V-; BPVO; FA1

## UAF42AU
designator IC?
universal active filter
footprint smd SOICW/16
pins: 1, 3, 4, 5, 6, 7, 8, 9, 10, 11, 12, 13, 14, 16
text: LPVO; FA2; VIN3; HPVO; VIN2; VIN1; AUX.OA+; GND; AUX.OA-; V+; AUX.OAVO; V-; BPVO; FA1

## UCC27524DSDT
designator IC?, comment UCC27524
Dual 5-A High-Speed Low-Side Gate Driver
footprint SMD QFN/8
pins: 1 ENA, 2 INA, 3 GND, 4 INB, 5 OUTB, 6 VDD, 7 OUTA, 8 ENB

## ULN2001A
designator IC?, comment ULN2001AA
darlington array, 7 stuks, gem. emitter en vrijloopdiode
footprint icv DIP16-300
part A pins: 1, 8, 9, 16
part B pins: 2, 15
part C pins: 3, 14
part D pins: 4, 13
part E pins: 5, 12
part F pins: 6, 11
part G pins: 7, 10
part A text: COM; CAT; GND

## ULN2002A
designator IC?, comment ULN2002AA
darlington array, 7 stuks, gem. emitter en vrijloopdiode
footprint icv DIP16-300
part A pins: 1, 8, 9, 16
part B pins: 2, 15
part C pins: 3, 14
part D pins: 4, 13
part E pins: 5, 12
part F pins: 6, 11
part G pins: 7, 10
part A text: COM; CAT; GND

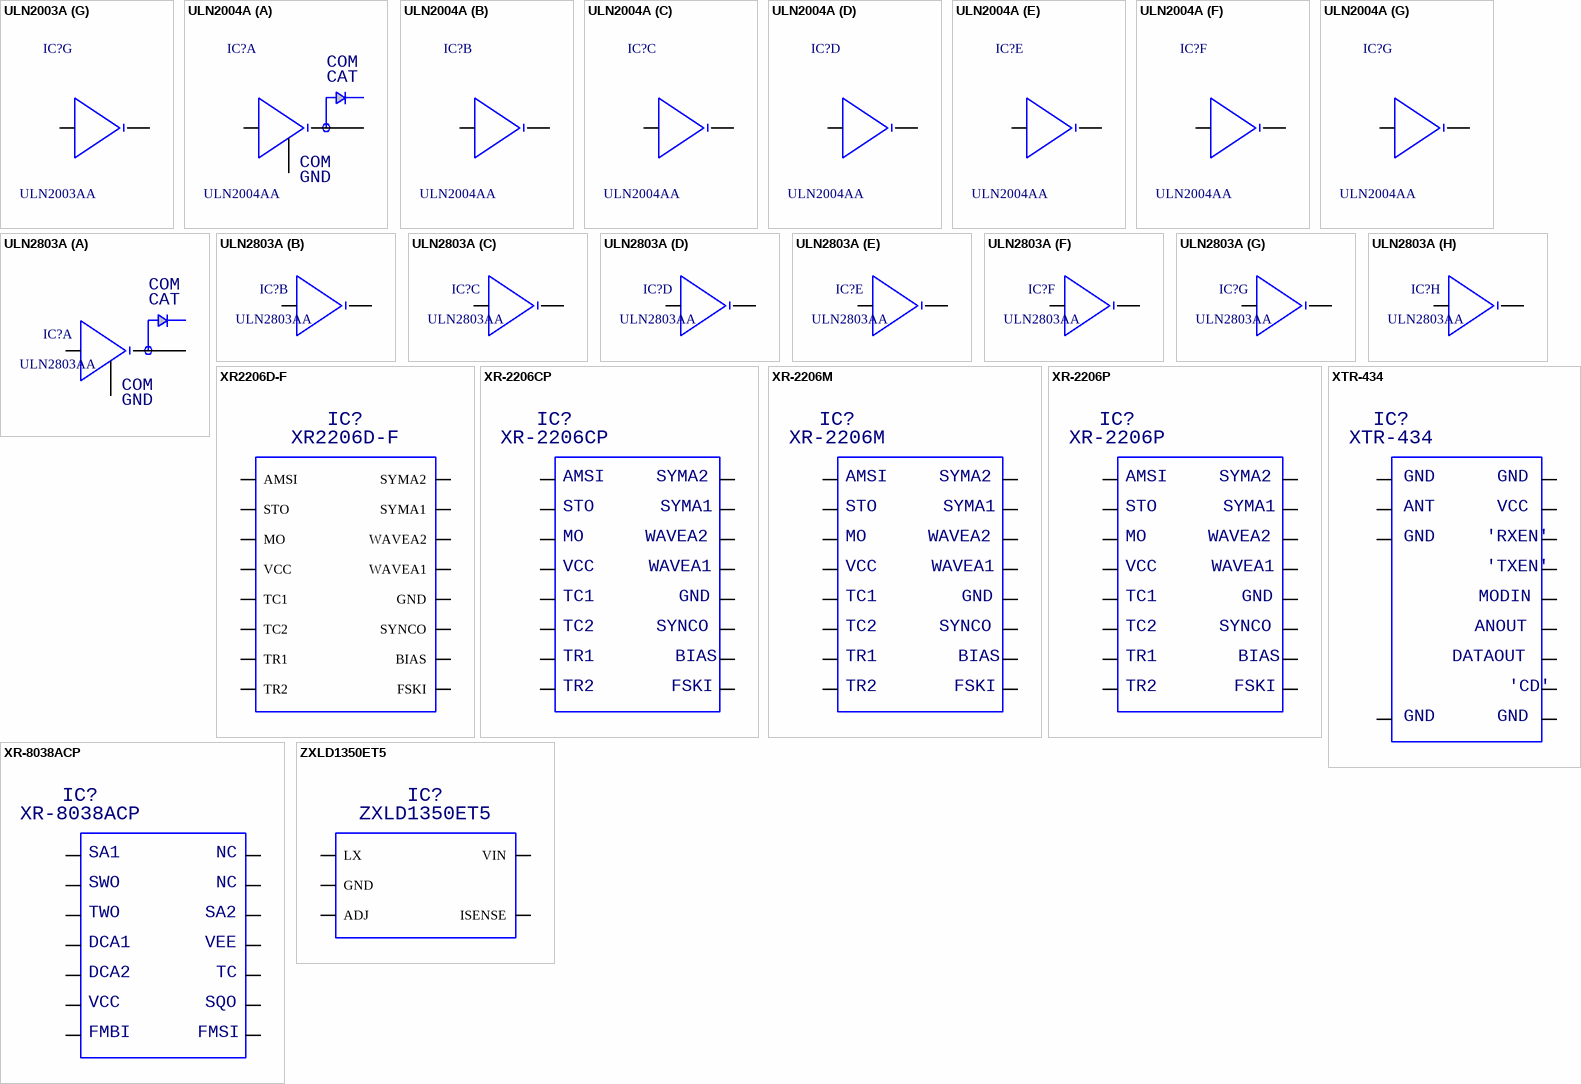
[diagram p18: symbols ULN2003A to ZXLD1350ET5]

## ULN2003A
designator IC?, comment ULN2003AA
darlington array, 7 stuks, gem. emitter en vrijloopdiode
footprint icv DIP16-300
part A pins: 1, 8, 9, 16
part B pins: 2, 15
part C pins: 3, 14
part D pins: 4, 13
part E pins: 5, 12
part F pins: 6, 11
part G pins: 7, 10
part A text: COM; CAT; GND

## ULN2004A
designator IC?, comment ULN2004AA
darlington array, 7 stuks, gem. emitter en vrijloopdiode
footprint icv DIP16-300
part A pins: 1, 8, 9, 16
part B pins: 2, 15
part C pins: 3, 14
part D pins: 4, 13
part E pins: 5, 12
part F pins: 6, 11
part G pins: 7, 10
part A text: COM; CAT; GND

## ULN2803A
designator IC?, comment ULN2803AA
darlington array, 8 stuks, gem. emitter en vrijloopdiode
footprint icv DIP18-300
part A pins: 1, 9, 10, 18
part B pins: 2, 17
part C pins: 3, 16
part D pins: 4, 15
part E pins: 5, 14
part F pins: 6, 13
part G pins: 7, 12
part H pins: 8, 11
part A text: COM; CAT; GND

## XR2206D-F
designator IC?
Monolithic Function Generator
footprint smd SOICW/16
pins: 1 AMSI, 2 STO, 3 MO, 4 VCC, 5 TC1, 6 TC2, 7 TR1, 8 TR2, 9 FSKI, 10 BIAS, 11 SYNCO, 12 GND, 13 WAVEA1, 14 WAVEA2, 15 SYMA1, 16 SYMA2

## XR-2206CP
designator IC?
monolithic function generator
footprint icv DIP16-300
pins: 1, 2, 3, 4, 5, 6, 7, 8, 9, 10, 11, 12, 13, 14, 15, 16
text: AMSI; SYMA2; STO; SYMA1; MO; WAVEA2; VCC; WAVEA1; TC1; GND; TC2; SYNCO; TR1; BIAS; TR2; FSKI

## XR-2206M
designator IC?
monolithic function generator
footprint icv DIP16-300
pins: 1, 2, 3, 4, 5, 6, 7, 8, 9, 10, 11, 12, 13, 14, 15, 16
text: AMSI; SYMA2; STO; SYMA1; MO; WAVEA2; VCC; WAVEA1; TC1; GND; TC2; SYNCO; TR1; BIAS; TR2; FSKI

## XR-2206P
designator IC?
monolithic function generator
footprint icv DIP16-300
pins: 1, 2, 3, 4, 5, 6, 7, 8, 9, 10, 11, 12, 13, 14, 15, 16
text: AMSI; SYMA2; STO; SYMA1; MO; WAVEA2; VCC; WAVEA1; TC1; GND; TC2; SYNCO; TR1; BIAS; TR2; FSKI

## XR-8038ACP
designator IC?
precision waveform generator
footprint icv DIP14-300
pins: 1, 2, 3, 4, 5, 6, 7, 8, 9, 10, 11, 12, 13, 14
text: SA1; NC; SWO; TWO; SA2; DCA1; VEE; DCA2; TC; VCC; SQO; FMBI; FMSI

## XTR-434
designator IC?
transceiver module, Aurel XTR-434
footprint transceiver XTR-434 (Aurel)
pins: 1, 2, 3, 4, 5, 6, 7, 8, 9, 10, 11, 12, 13
text: GND; ANT; VCC; 'RXEN'; 'TXEN'; MODIN; ANOUT; DATAOUT; 'CD'

## ZXLD1350ET5
designator IC?
LED driver with internal switch
footprint smd SOT-23/5p (body 1.6 wide, pitch 0.95mm)
pins: 1 LX, 2 GND, 3 ADJ, 4 ISENSE, 5 VIN


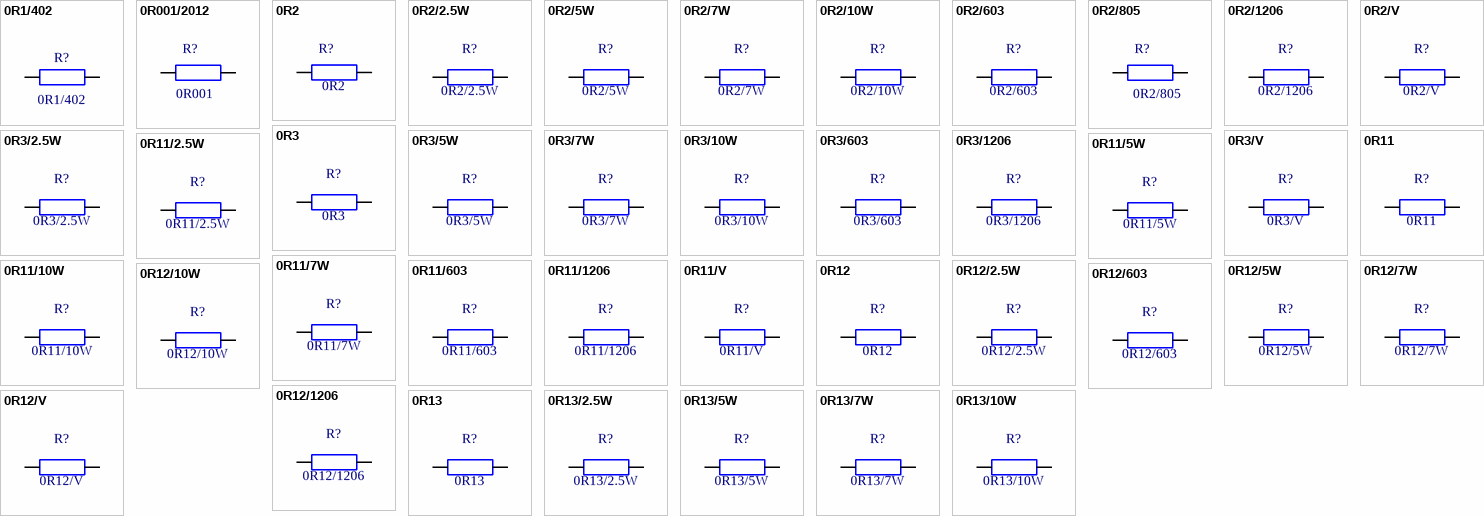
[diagram p19: symbols 0R1/402 to 0R13/10W]

## 0R1/402
designator R?
weerstand SMD402, 0R1
footprint smd C0402_0.35
pins: 1, 2

## 0R001/2012
designator R?, comment 0R001
0.001R resistor, 2W, 2512 package
footprint smd c2512 (Chip Capacitor, Body 2.54x1.27mm, IPC High Density)
pins: 1, 2

## 0R2
designator R?
weerstand 0R2 0.6W
footprint ws 0.6W H
pins: 1, 2

## 0R2/2.5W
designator R?
weerstand 0R2 2.5W
footprint ws 2.5W H
pins: 1, 2

## 0R2/5W
designator R?
weerstand 0R2 5W
footprint ws 5W H
pins: 1, 2

## 0R2/7W
designator R?
weerstand 0R2 7W
footprint ws 7W H
pins: 1, 2

## 0R2/10W
designator R?
weerstand 0R2 10W
footprint ws 10W H
pins: 1, 2

## 0R2/603
designator R?
weerstand SMD603, 0R2
footprint smd C0603_0.45
pins: 1, 2

## 0R2/805
designator R?
weerstand SMD805, 0R2
footprint smd C0805_0.50
pins: 1, 2

## 0R2/1206
designator R?
weerstand SMD1206, 0R2
footprint smd C1206_0.55
pins: 1, 2

## 0R2/V
designator R?
weerstand 0R2 0.6W, vertikaal
footprint ws 0.6W V
pins: 1, 2

## 0R3
designator R?
weerstand 0R3 0.6W
footprint ws 0.6W H
pins: 1, 2

## 0R3/2.5W
designator R?
weerstand 0R3 2.5W
footprint ws 2.5W H
pins: 1, 2

## 0R3/5W
designator R?
weerstand 0R3 5W
footprint ws 5W H
pins: 1, 2

## 0R3/7W
designator R?
weerstand 0R3 7W
footprint ws 7W H
pins: 1, 2

## 0R3/10W
designator R?
weerstand 0R3 10W
footprint ws 10W H
pins: 1, 2

## 0R3/603
designator R?
weerstand SMD603, 0R3
footprint smd C0603_0.45
pins: 1, 2

## 0R3/1206
designator R?
weerstand SMD1206, 0R3
footprint smd C1206_0.55
pins: 1, 2

## 0R3/V
designator R?
weerstand 0R3 0.6W, vertikaal
footprint ws 0.6W V
pins: 1, 2

## 0R11
designator R?
weerstand 0R11 0.6W
footprint ws 0.6W H
pins: 1, 2

## 0R11/2.5W
designator R?
weerstand 0R11 2.5W
footprint ws 2.5W H
pins: 1, 2

## 0R11/5W
designator R?
weerstand 0R11 5W
footprint ws 5W H
pins: 1, 2

## 0R11/7W
designator R?
weerstand 0R11 7W
footprint ws 7W H
pins: 1, 2

## 0R11/10W
designator R?
weerstand 0R11 10W
footprint ws 10W H
pins: 1, 2

## 0R11/603
designator R?
weerstand SMD603, 0R11
footprint smd C0603_0.45
pins: 1, 2

## 0R11/1206
designator R?
weerstand SMD1206, 0R11
footprint smd C1206_0.55
pins: 1, 2

## 0R11/V
designator R?
weerstand 0R11 0.6W, vertikaal
footprint ws 0.6W V
pins: 1, 2

## 0R12
designator R?
weerstand 0R12 0.6W
footprint ws 0.6W H
pins: 1, 2

## 0R12/2.5W
designator R?
weerstand 0R12 2.5W
footprint ws 2.5W H
pins: 1, 2

## 0R12/5W
designator R?
weerstand 0R12 5W
footprint ws 5W H
pins: 1, 2

## 0R12/7W
designator R?
weerstand 0R12 7W
footprint ws 7W H
pins: 1, 2

## 0R12/10W
designator R?
weerstand 0R12 10W
footprint ws 10W H
pins: 1, 2

## 0R12/603
designator R?
weerstand SMD603, 0R12
footprint smd C0603_0.45
pins: 1, 2

## 0R12/1206
designator R?
weerstand SMD1206, 0R12
footprint smd C1206_0.55
pins: 1, 2

## 0R12/V
designator R?
weerstand 0R12 0.6W, vertikaal
footprint ws 0.6W V
pins: 1, 2

## 0R13
designator R?
weerstand 0R13 0.6W
footprint ws 0.6W H
pins: 1, 2

## 0R13/2.5W
designator R?
weerstand 0R13 2.5W
footprint ws 2.5W H
pins: 1, 2

## 0R13/5W
designator R?
weerstand 0R13 5W
footprint ws 5W H
pins: 1, 2

## 0R13/7W
designator R?
weerstand 0R13 7W
footprint ws 7W H
pins: 1, 2

## 0R13/10W
designator R?
weerstand 0R13 10W
footprint ws 10W H
pins: 1, 2

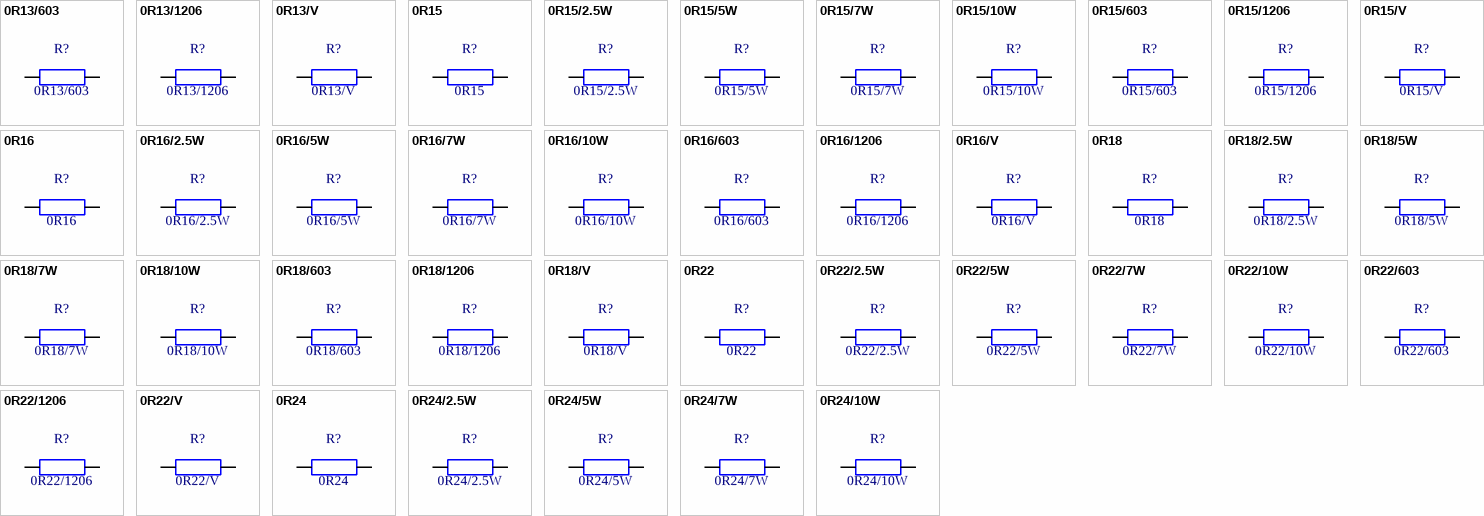
[diagram p20: symbols 0R13/603 to 0R24/10W]

## 0R13/603
designator R?
weerstand SMD603, 0R13
footprint smd C0603_0.45
pins: 1, 2

## 0R13/1206
designator R?
weerstand SMD1206, 0R13
footprint smd C1206_0.55
pins: 1, 2

## 0R13/V
designator R?
weerstand 0R13 0.6W, vertikaal
footprint ws 0.6W V
pins: 1, 2

## 0R15
designator R?
weerstand 0R15 0.6W
footprint ws 0.6W H
pins: 1, 2

## 0R15/2.5W
designator R?
weerstand 0R15 2.5W
footprint ws 2.5W H
pins: 1, 2

## 0R15/5W
designator R?
weerstand 0R15 5W
footprint ws 5W H
pins: 1, 2

## 0R15/7W
designator R?
weerstand 0R15 7W
footprint ws 7W H
pins: 1, 2

## 0R15/10W
designator R?
weerstand 0R15 10W
footprint ws 10W H
pins: 1, 2

## 0R15/603
designator R?
weerstand SMD603, 0R15
footprint smd C0603_0.45
pins: 1, 2

## 0R15/1206
designator R?
weerstand SMD1206, 0R15
footprint smd C1206_0.55
pins: 1, 2

## 0R15/V
designator R?
weerstand 0R15 0.6W, vertikaal
footprint ws 0.6W V
pins: 1, 2

## 0R16
designator R?
weerstand 0R16 0.6W
footprint ws 0.6W H
pins: 1, 2

## 0R16/2.5W
designator R?
weerstand 0R16 2.5W
footprint ws 2.5W H
pins: 1, 2

## 0R16/5W
designator R?
weerstand 0R16 5W
footprint ws 5W H
pins: 1, 2

## 0R16/7W
designator R?
weerstand 0R16 7W
footprint ws 7W H
pins: 1, 2

## 0R16/10W
designator R?
weerstand 0R16 10W
footprint ws 10W H
pins: 1, 2

## 0R16/603
designator R?
weerstand SMD603, 0R16
footprint smd C0603_0.45
pins: 1, 2

## 0R16/1206
designator R?
weerstand SMD1206, 0R16
footprint smd C1206_0.55
pins: 1, 2

## 0R16/V
designator R?
weerstand 0R16 0.6W, vertikaal
footprint ws 0.6W V
pins: 1, 2

## 0R18
designator R?
weerstand 0R18 0.6W
footprint ws 0.6W H
pins: 1, 2

## 0R18/2.5W
designator R?
weerstand 0R18 2.5W
footprint ws 2.5W H
pins: 1, 2

## 0R18/5W
designator R?
weerstand 0R18 5W
footprint ws 5W H
pins: 1, 2

## 0R18/7W
designator R?
weerstand 0R18 7W
footprint ws 7W H
pins: 1, 2

## 0R18/10W
designator R?
weerstand 0R18 10W
footprint ws 10W H
pins: 1, 2

## 0R18/603
designator R?
weerstand SMD603, 0R18
footprint smd C0603_0.45
pins: 1, 2

## 0R18/1206
designator R?
weerstand SMD1206, 0R18
footprint smd C1206_0.55
pins: 1, 2

## 0R18/V
designator R?
weerstand 0R18 0.6W, vertikaal
footprint ws 0.6W V
pins: 1, 2

## 0R22
designator R?
weerstand 0R22 0.6W
footprint ws 0.6W H
pins: 1, 2

## 0R22/2.5W
designator R?
weerstand 0R22 2.5W
footprint ws 2.5W H
pins: 1, 2

## 0R22/5W
designator R?
weerstand 0R22 5W
footprint ws 5W H
pins: 1, 2

## 0R22/7W
designator R?
weerstand 0R22 7W
footprint ws 7W H
pins: 1, 2

## 0R22/10W
designator R?
weerstand 0R22 10W
footprint ws 10W H
pins: 1, 2

## 0R22/603
designator R?
weerstand SMD603, 0R22
footprint smd C0603_0.45
pins: 1, 2

## 0R22/1206
designator R?
weerstand SMD1206, 0R22
footprint smd C1206_0.55
pins: 1, 2

## 0R22/V
designator R?
weerstand 0R22 0.6W, vertikaal
footprint ws 0.6W V
pins: 1, 2

## 0R24
designator R?
weerstand 0R24 0.6W
footprint ws 0.6W H
pins: 1, 2

## 0R24/2.5W
designator R?
weerstand 0R24 2.5W
footprint ws 2.5W H
pins: 1, 2

## 0R24/5W
designator R?
weerstand 0R24 5W
footprint ws 5W H
pins: 1, 2

## 0R24/7W
designator R?
weerstand 0R24 7W
footprint ws 7W H
pins: 1, 2

## 0R24/10W
designator R?
weerstand 0R24 10W
footprint ws 10W H
pins: 1, 2

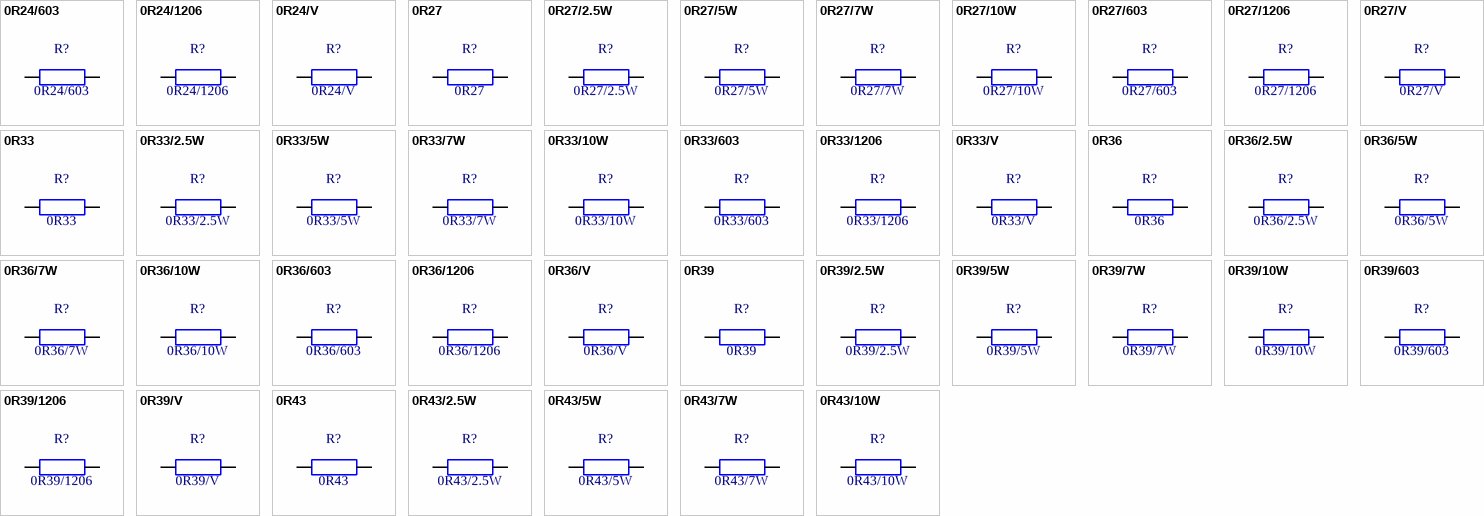
[diagram p21: symbols 0R24/603 to 0R43/10W]

## 0R24/603
designator R?
weerstand SMD603, 0R24
footprint smd C0603_0.45
pins: 1, 2

## 0R24/1206
designator R?
weerstand SMD1206, 0R24
footprint smd C1206_0.55
pins: 1, 2

## 0R24/V
designator R?
weerstand 0R24 0.6W, vertikaal
footprint ws 0.6W V
pins: 1, 2

## 0R27
designator R?
weerstand 0R27 0.6W
footprint ws 0.6W H
pins: 1, 2

## 0R27/2.5W
designator R?
weerstand 0R27 2.5W
footprint ws 2.5W H
pins: 1, 2

## 0R27/5W
designator R?
weerstand 0R27 5W
footprint ws 5W H
pins: 1, 2

## 0R27/7W
designator R?
weerstand 0R27 7W
footprint ws 7W H
pins: 1, 2

## 0R27/10W
designator R?
weerstand 0R27 10W
footprint ws 10W H
pins: 1, 2

## 0R27/603
designator R?
weerstand SMD603, 0R27
footprint smd C0603_0.45
pins: 1, 2

## 0R27/1206
designator R?
weerstand SMD1206, 0R27
footprint smd C1206_0.55
pins: 1, 2

## 0R27/V
designator R?
weerstand 0R27 0.6W, vertikaal
footprint ws 0.6W V
pins: 1, 2

## 0R33
designator R?
weerstand 0R33 0.6W
footprint ws 0.6W H
pins: 1, 2

## 0R33/2.5W
designator R?
weerstand 0R33 2.5W
footprint ws 2.5W H
pins: 1, 2

## 0R33/5W
designator R?
weerstand 0R33 5W
footprint ws 5W H
pins: 1, 2

## 0R33/7W
designator R?
weerstand 0R33 7W
footprint ws 7W H
pins: 1, 2

## 0R33/10W
designator R?
weerstand 0R33 10W
footprint ws 10W H
pins: 1, 2

## 0R33/603
designator R?
weerstand SMD603, 0R33
footprint smd C0603_0.45
pins: 1, 2

## 0R33/1206
designator R?
weerstand SMD1206, 0R33
footprint smd C1206_0.55
pins: 1, 2

## 0R33/V
designator R?
weerstand 0R33 0.6W, vertikaal
footprint ws 0.6W V
pins: 1, 2

## 0R36
designator R?
weerstand 0R36 0.6W
footprint ws 0.6W H
pins: 1, 2

## 0R36/2.5W
designator R?
weerstand 0R36 2.5W
footprint ws 2.5W H
pins: 1, 2

## 0R36/5W
designator R?
weerstand 0R36 5W
footprint ws 5W H
pins: 1, 2

## 0R36/7W
designator R?
weerstand 0R36 7W
footprint ws 7W H
pins: 1, 2

## 0R36/10W
designator R?
weerstand 0R36 10W
footprint ws 10W H
pins: 1, 2

## 0R36/603
designator R?
weerstand SMD603, 0R36
footprint smd C0603_0.45
pins: 1, 2

## 0R36/1206
designator R?
weerstand SMD1206, 0R36
footprint smd C1206_0.55
pins: 1, 2

## 0R36/V
designator R?
weerstand 0R36 0.6W, vertikaal
footprint ws 0.6W V
pins: 1, 2

## 0R39
designator R?
weerstand 0R39 0.6W
footprint ws 0.6W H
pins: 1, 2

## 0R39/2.5W
designator R?
weerstand 0R39 2.5W
footprint ws 2.5W H
pins: 1, 2

## 0R39/5W
designator R?
weerstand 0R39 5W
footprint ws 5W H
pins: 1, 2

## 0R39/7W
designator R?
weerstand 0R39 7W
footprint ws 7W H
pins: 1, 2

## 0R39/10W
designator R?
weerstand 0R39 10W
footprint ws 10W H
pins: 1, 2

## 0R39/603
designator R?
weerstand SMD603, 0R39
footprint smd C0603_0.45
pins: 1, 2

## 0R39/1206
designator R?
weerstand SMD1206, 0R39
footprint smd C1206_0.55
pins: 1, 2

## 0R39/V
designator R?
weerstand 0R39 0.6W, vertikaal
footprint ws 0.6W V
pins: 1, 2

## 0R43
designator R?
weerstand 0R43 0.6W
footprint ws 0.6W H
pins: 1, 2

## 0R43/2.5W
designator R?
weerstand 0R43 2.5W
footprint ws 2.5W H
pins: 1, 2

## 0R43/5W
designator R?
weerstand 0R43 5W
footprint ws 5W H
pins: 1, 2

## 0R43/7W
designator R?
weerstand 0R43 7W
footprint ws 7W H
pins: 1, 2

## 0R43/10W
designator R?
weerstand 0R43 10W
footprint ws 10W H
pins: 1, 2

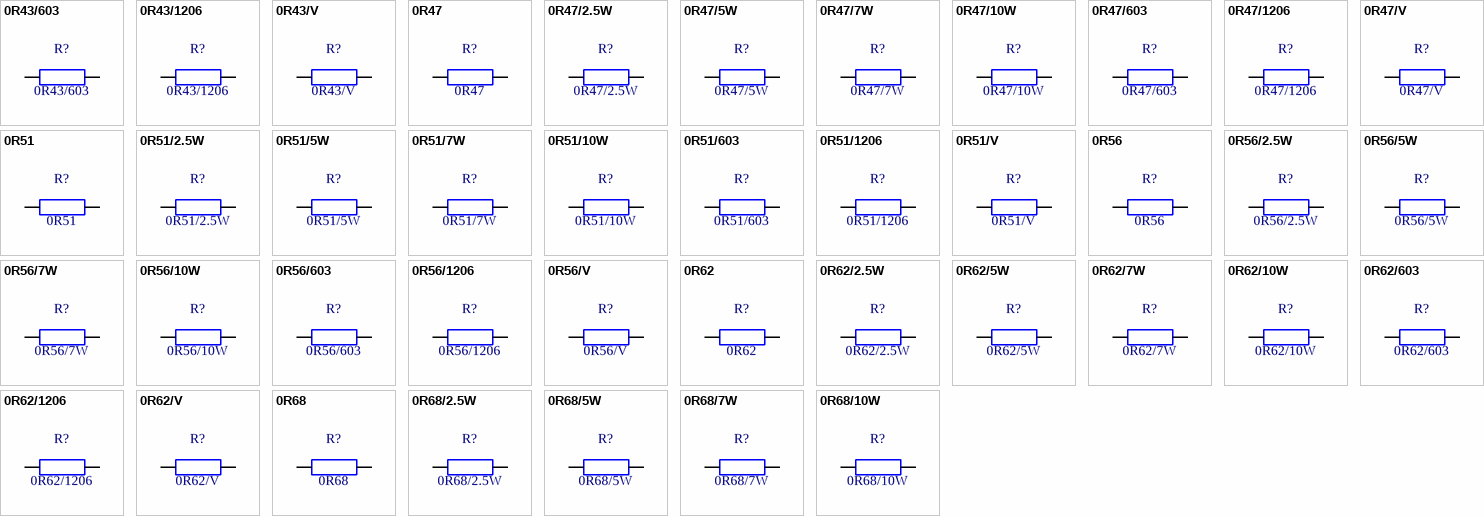
[diagram p22: symbols 0R43/603 to 0R68/10W]

## 0R43/603
designator R?
weerstand SMD603, 0R43
footprint smd C0603_0.45
pins: 1, 2

## 0R43/1206
designator R?
weerstand SMD1206, 0R43
footprint smd C1206_0.55
pins: 1, 2

## 0R43/V
designator R?
weerstand 0R43 0.6W, vertikaal
footprint ws 0.6W V
pins: 1, 2

## 0R47
designator R?
weerstand 0R47 0.6W
footprint ws 0.6W H
pins: 1, 2

## 0R47/2.5W
designator R?
weerstand 0R47 2.5W
footprint ws 2.5W H
pins: 1, 2

## 0R47/5W
designator R?
weerstand 0R47 5W
footprint ws 5W H
pins: 1, 2

## 0R47/7W
designator R?
weerstand 0R47 7W
footprint ws 7W H
pins: 1, 2

## 0R47/10W
designator R?
weerstand 0R47 10W
footprint ws 10W H
pins: 1, 2

## 0R47/603
designator R?
weerstand SMD603, 0R47
footprint smd C0603_0.45
pins: 1, 2

## 0R47/1206
designator R?
weerstand SMD1206, 0R47
footprint smd C1206_0.55
pins: 1, 2

## 0R47/V
designator R?
weerstand 0R47 0.6W, vertikaal
footprint ws 0.6W V
pins: 1, 2

## 0R51
designator R?
weerstand 0R51 0.6W
footprint ws 0.6W H
pins: 1, 2

## 0R51/2.5W
designator R?
weerstand 0R51 2.5W
footprint ws 2.5W H
pins: 1, 2

## 0R51/5W
designator R?
weerstand 0R51 5W
footprint ws 5W H
pins: 1, 2

## 0R51/7W
designator R?
weerstand 0R51 7W
footprint ws 7W H
pins: 1, 2

## 0R51/10W
designator R?
weerstand 0R51 10W
footprint ws 10W H
pins: 1, 2

## 0R51/603
designator R?
weerstand SMD603, 0R51
footprint smd C0603_0.45
pins: 1, 2

## 0R51/1206
designator R?
weerstand SMD1206, 0R51
footprint smd C1206_0.55
pins: 1, 2

## 0R51/V
designator R?
weerstand 0R51 0.6W, vertikaal
footprint ws 0.6W V
pins: 1, 2

## 0R56
designator R?
weerstand 0R56 0.6W
footprint ws 0.6W H
pins: 1, 2

## 0R56/2.5W
designator R?
weerstand 0R56 2.5W
footprint ws 2.5W H
pins: 1, 2

## 0R56/5W
designator R?
weerstand 0R56 5W
footprint ws 5W H
pins: 1, 2

## 0R56/7W
designator R?
weerstand 0R56 7W
footprint ws 7W H
pins: 1, 2

## 0R56/10W
designator R?
weerstand 0R56 10W
footprint ws 10W H
pins: 1, 2

## 0R56/603
designator R?
weerstand SMD603, 0R56
footprint smd C0603_0.45
pins: 1, 2

## 0R56/1206
designator R?
weerstand SMD1206, 0R56
footprint smd C1206_0.55
pins: 1, 2

## 0R56/V
designator R?
weerstand 0R56 0.6W, vertikaal
footprint ws 0.6W V
pins: 1, 2

## 0R62
designator R?
weerstand 0R62 0.6W
footprint ws 0.6W H
pins: 1, 2

## 0R62/2.5W
designator R?
weerstand 0R62 2.5W
footprint ws 2.5W H
pins: 1, 2

## 0R62/5W
designator R?
weerstand 0R62 5W
footprint ws 5W H
pins: 1, 2

## 0R62/7W
designator R?
weerstand 0R62 7W
footprint ws 7W H
pins: 1, 2

## 0R62/10W
designator R?
weerstand 0R62 10W
footprint ws 10W H
pins: 1, 2

## 0R62/603
designator R?
weerstand SMD603, 0R62
footprint smd C0603_0.45
pins: 1, 2

## 0R62/1206
designator R?
weerstand SMD1206, 0R62
footprint smd C1206_0.55
pins: 1, 2

## 0R62/V
designator R?
weerstand 0R62 0.6W, vertikaal
footprint ws 0.6W V
pins: 1, 2

## 0R68
designator R?
weerstand 0R68 0.6W
footprint ws 0.6W H
pins: 1, 2

## 0R68/2.5W
designator R?
weerstand 0R68 2.5W
footprint ws 2.5W H
pins: 1, 2

## 0R68/5W
designator R?
weerstand 0R68 5W
footprint ws 5W H
pins: 1, 2

## 0R68/7W
designator R?
weerstand 0R68 7W
footprint ws 7W H
pins: 1, 2

## 0R68/10W
designator R?
weerstand 0R68 10W
footprint ws 10W H
pins: 1, 2

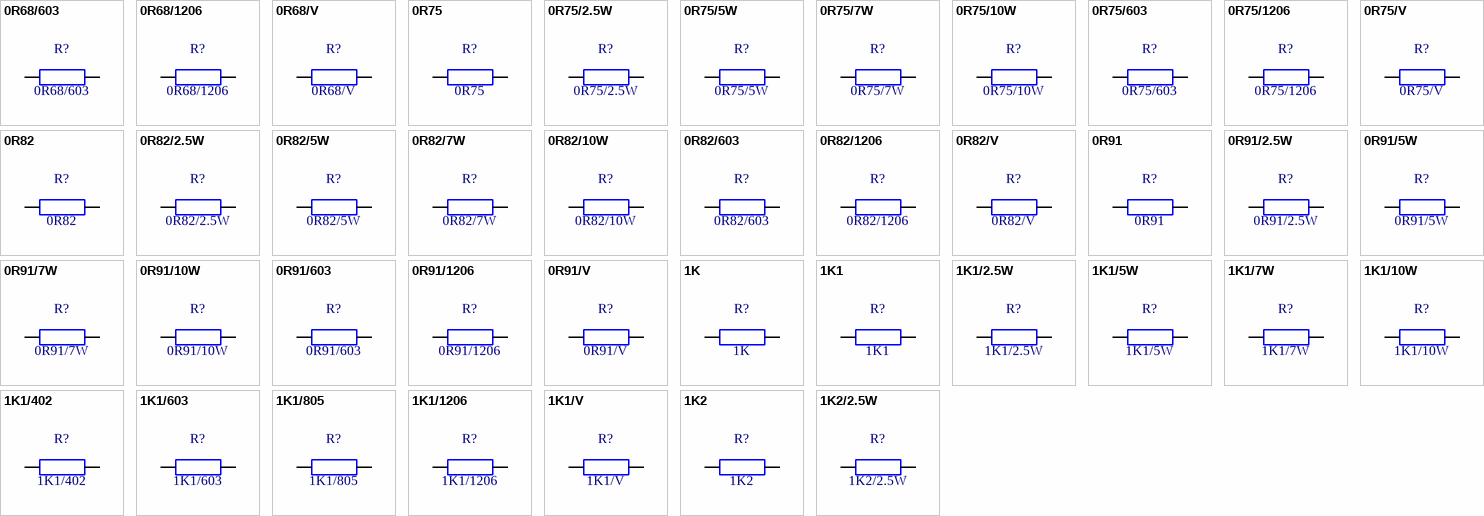
[diagram p23: symbols 0R68/603 to 1K2/2.5W]

## 0R68/603
designator R?
weerstand SMD603, 0R68
footprint smd C0603_0.45
pins: 1, 2

## 0R68/1206
designator R?
weerstand SMD1206, 0R68
footprint smd C1206_0.55
pins: 1, 2

## 0R68/V
designator R?
weerstand 0R68 0.6W, vertikaal
footprint ws 0.6W V
pins: 1, 2

## 0R75
designator R?
weerstand 0R75 0.6W
footprint ws 0.6W H
pins: 1, 2

## 0R75/2.5W
designator R?
weerstand 0R75 2.5W
footprint ws 2.5W H
pins: 1, 2

## 0R75/5W
designator R?
weerstand 0R75 5W
footprint ws 5W H
pins: 1, 2

## 0R75/7W
designator R?
weerstand 0R75 7W
footprint ws 7W H
pins: 1, 2

## 0R75/10W
designator R?
weerstand 0R75 10W
footprint ws 10W H
pins: 1, 2

## 0R75/603
designator R?
weerstand SMD603, 0R75
footprint smd C0603_0.45
pins: 1, 2

## 0R75/1206
designator R?
weerstand SMD1206, 0R75
footprint smd C1206_0.55
pins: 1, 2

## 0R75/V
designator R?
weerstand 0R75 0.6W, vertikaal
footprint ws 0.6W V
pins: 1, 2

## 0R82
designator R?
weerstand 0R82 0.6W
footprint ws 0.6W H
pins: 1, 2

## 0R82/2.5W
designator R?
weerstand 0R82 2.5W
footprint ws 2.5W H
pins: 1, 2

## 0R82/5W
designator R?
weerstand 0R82 5W
footprint ws 5W H
pins: 1, 2

## 0R82/7W
designator R?
weerstand 0R82 7W
footprint ws 7W H
pins: 1, 2

## 0R82/10W
designator R?
weerstand 0R82 10W
footprint ws 10W H
pins: 1, 2

## 0R82/603
designator R?
weerstand SMD603, 0R82
footprint smd C0603_0.45
pins: 1, 2

## 0R82/1206
designator R?
weerstand SMD1206, 0R82
footprint smd C1206_0.55
pins: 1, 2

## 0R82/V
designator R?
weerstand 0R82 0.6W, vertikaal
footprint ws 0.6W V
pins: 1, 2

## 0R91
designator R?
weerstand 0R91 0.6W
footprint ws 0.6W H
pins: 1, 2

## 0R91/2.5W
designator R?
weerstand 0R91 2.5W
footprint ws 2.5W H
pins: 1, 2

## 0R91/5W
designator R?
weerstand 0R91 5W
footprint ws 5W H
pins: 1, 2

## 0R91/7W
designator R?
weerstand 0R91 7W
footprint ws 7W H
pins: 1, 2

## 0R91/10W
designator R?
weerstand 0R91 10W
footprint ws 10W H
pins: 1, 2

## 0R91/603
designator R?
weerstand SMD603, 0R91
footprint smd C0603_0.45
pins: 1, 2

## 0R91/1206
designator R?
weerstand SMD1206, 0R91
footprint smd C1206_0.55
pins: 1, 2

## 0R91/V
designator R?
weerstand 0R91 0.6W, vertikaal
footprint ws 0.6W V
pins: 1, 2

## 1K
designator R?
weerstand 1K 0.6W
footprint ws 0.6W H
pins: 1, 2

## 1K1
designator R?
weerstand 1K1 0.6W
footprint ws 0.6W H
pins: 1, 2

## 1K1/2.5W
designator R?
weerstand 1K1 2.5W
footprint ws 2.5W H
pins: 1, 2

## 1K1/5W
designator R?
weerstand 1K1 5W
footprint ws 5W H
pins: 1, 2

## 1K1/7W
designator R?
weerstand 1K1 7W
footprint ws 7W H
pins: 1, 2

## 1K1/10W
designator R?
weerstand 1K1 10W
footprint ws 10W H
pins: 1, 2

## 1K1/402
designator R?
weerstand SMD402, 1K1
footprint smd C0402_0.35
pins: 1, 2

## 1K1/603
designator R?
weerstand SMD603, 1K1
footprint smd C0603_0.45
pins: 1, 2

## 1K1/805
designator R?
weerstand SMD805, 1K1
footprint smd C0805_0.50
pins: 1, 2

## 1K1/1206
designator R?
weerstand SMD1206, 1K1
footprint smd C1206_0.55
pins: 1, 2

## 1K1/V
designator R?
weerstand 1K1 0.6W, vertikaal
footprint ws 0.6W V
pins: 1, 2

## 1K2
designator R?
weerstand 1K2 0.6W
footprint ws 0.6W H
pins: 1, 2

## 1K2/2.5W
designator R?
weerstand 1K2 2.5W
footprint ws 2.5W H
pins: 1, 2

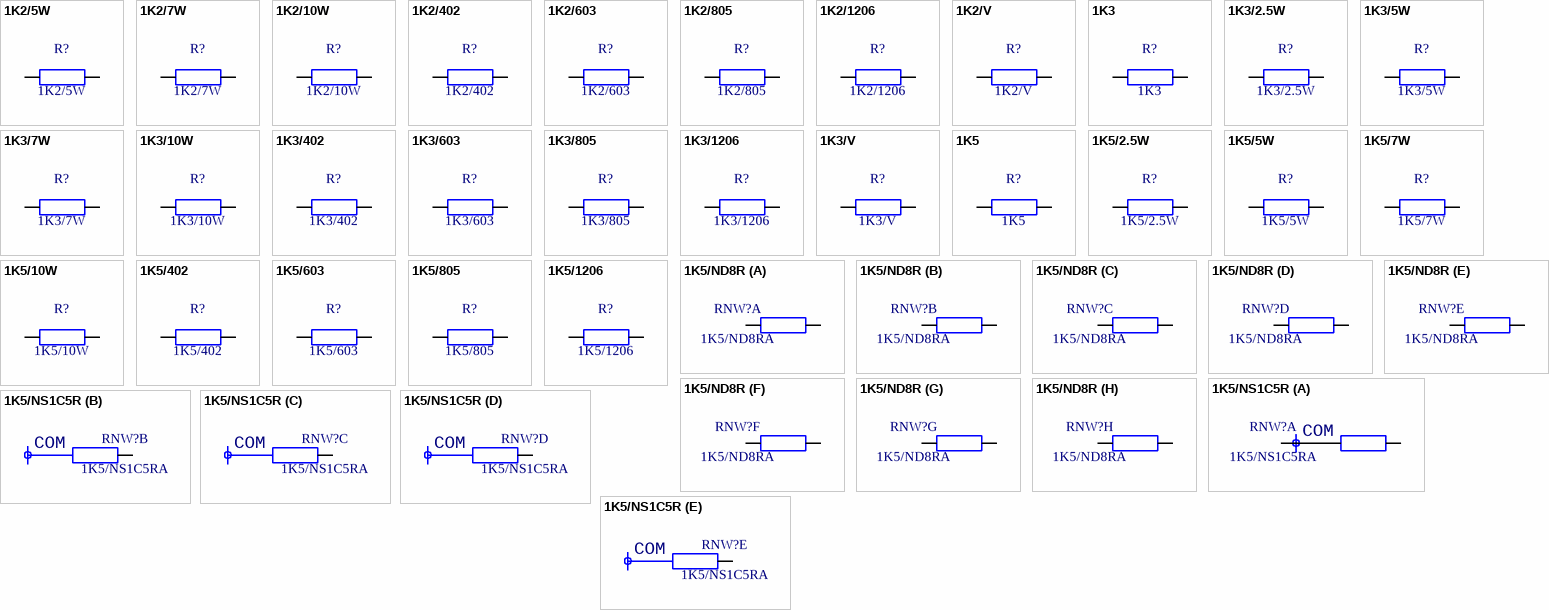
[diagram p24: symbols 1K2/5W to 1K5/NS1C5R]

## 1K2/5W
designator R?
weerstand 1K2 5W
footprint ws 5W H
pins: 1, 2

## 1K2/7W
designator R?
weerstand 1K2 7W
footprint ws 7W H
pins: 1, 2

## 1K2/10W
designator R?
weerstand 1K2 10W
footprint ws 10W H
pins: 1, 2

## 1K2/402
designator R?
weerstand SMD402, 1K2
footprint smd C0402_0.35
pins: 1, 2

## 1K2/603
designator R?
weerstand SMD603, 1K2
footprint smd C0603_0.45
pins: 1, 2

## 1K2/805
designator R?
weerstand SMD805, 1K2
footprint smd C0805_0.50
pins: 1, 2

## 1K2/1206
designator R?
weerstand SMD1206, 1K2
footprint smd C1206_0.55
pins: 1, 2

## 1K2/V
designator R?
weerstand 1K2 0.6W, vertikaal
footprint ws 0.6W V
pins: 1, 2

## 1K3
designator R?
weerstand 1K3 0.6W
footprint ws 0.6W H
pins: 1, 2

## 1K3/2.5W
designator R?
weerstand 1K3 2.5W
footprint ws 2.5W H
pins: 1, 2

## 1K3/5W
designator R?
weerstand 1K3 5W
footprint ws 5W H
pins: 1, 2

## 1K3/7W
designator R?
weerstand 1K3 7W
footprint ws 7W H
pins: 1, 2

## 1K3/10W
designator R?
weerstand 1K3 10W
footprint ws 10W H
pins: 1, 2

## 1K3/402
designator R?
weerstand SMD402, 1K3
footprint smd C0402_0.35
pins: 1, 2

## 1K3/603
designator R?
weerstand SMD603, 1K3
footprint smd C0603_0.45
pins: 1, 2

## 1K3/805
designator R?
weerstand SMD805, 1K3
footprint smd C0805_0.50
pins: 1, 2

## 1K3/1206
designator R?
weerstand SMD1206, 1K3
footprint smd C1206_0.55
pins: 1, 2

## 1K3/V
designator R?
weerstand 1K3 0.6W, vertikaal
footprint ws 0.6W V
pins: 1, 2

## 1K5
designator R?
weerstand 1K5 0.6W
footprint ws 0.6W H
pins: 1, 2

## 1K5/2.5W
designator R?
weerstand 1K5 2.5W
footprint ws 2.5W H
pins: 1, 2

## 1K5/5W
designator R?
weerstand 1K5 5W
footprint ws 5W H
pins: 1, 2

## 1K5/7W
designator R?
weerstand 1K5 7W
footprint ws 7W H
pins: 1, 2

## 1K5/10W
designator R?
weerstand 1K5 10W
footprint ws 10W H
pins: 1, 2

## 1K5/402
designator R?
weerstand SMD402, 1K5
footprint smd C0402_0.35
pins: 1, 2

## 1K5/603
designator R?
weerstand SMD603, 1K5
footprint smd C0603_0.45
pins: 1, 2

## 1K5/805
designator R?
weerstand SMD805, 1K5
footprint smd C0805_0.50
pins: 1, 2

## 1K5/1206
designator R?
weerstand SMD1206, 1K5
footprint smd C1206_0.55
pins: 1, 2

## 1K5/ND8R
designator RNW?, comment 1K5/ND8RA
weerstandsnetwerk, DIL, 8 x 1K5
footprint icv DIP16-300
part A pins: 1, 16
part B pins: 2, 15
part C pins: 3, 14
part D pins: 4, 13
part E pins: 5, 12
part F pins: 6, 11
part G pins: 7, 10
part H pins: 8, 9

## 1K5/NS1C5R
designator RNW?, comment 1K5/NS1C5RA
weerstandsnetwerk, SIL, 1 gemeens.pin, 5 weerst., 1K5
footprint ws netwerk 5xR 1C (SIL)
part A pins: 1, 2
part B pins: 3
part C pins: 4
part D pins: 5
part E pins: 6
part A text: COM
part B text: COM
part C text: COM
part D text: COM
part E text: COM

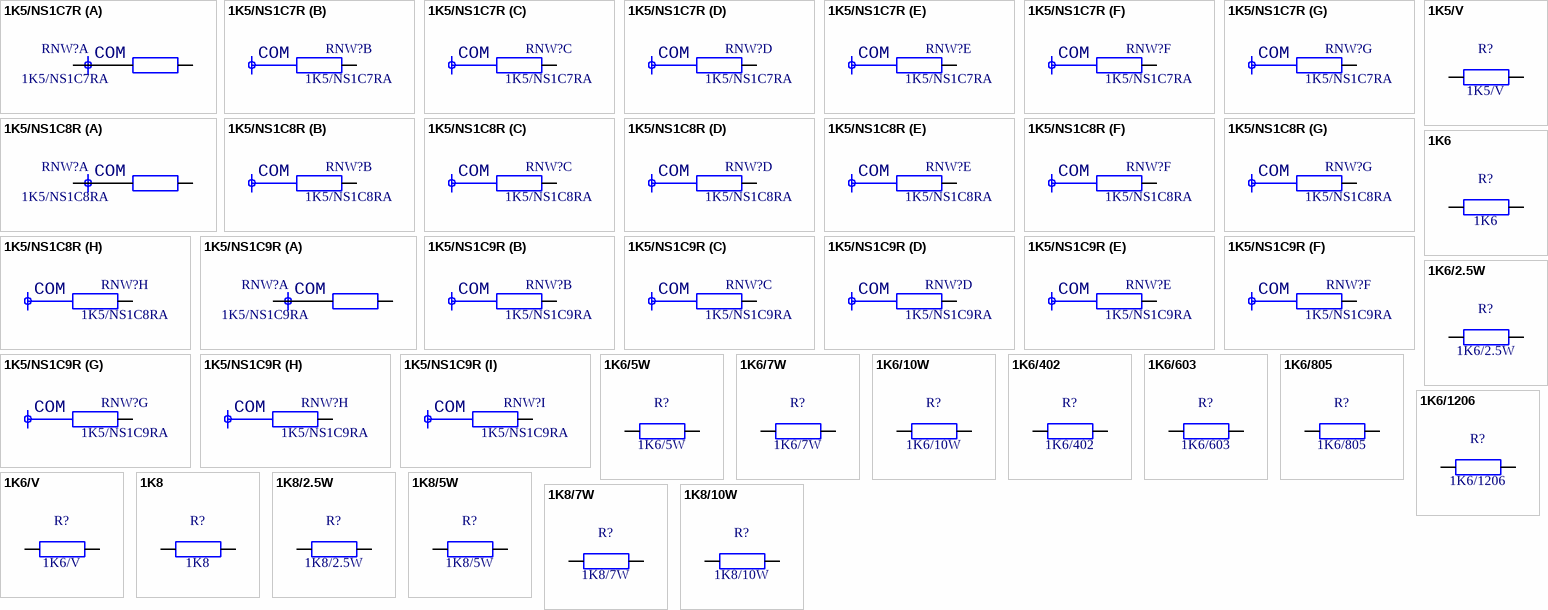
[diagram p25: symbols 1K5/NS1C7R to 1K8/10W]

## 1K5/NS1C7R
designator RNW?, comment 1K5/NS1C7RA
weerstandsnetwerk, SIL, 1 gemeens.pin, 7 weerst., 1K5
footprint ws netwerk 7xR 1C (SIL)
part A pins: 1, 2
part B pins: 3
part C pins: 4
part D pins: 5
part E pins: 6
part F pins: 7
part G pins: 8
part A text: COM
part B text: COM
part C text: COM
part D text: COM
part E text: COM
part F text: COM
part G text: COM

## 1K5/NS1C8R
designator RNW?, comment 1K5/NS1C8RA
weerstandsnetwerk, SIL, 1 gemeens.pin, 8 weerst., 1K5
footprint ws netwerk 8xR 1C (SIL)
part A pins: 1, 2
part B pins: 3
part C pins: 4
part D pins: 5
part E pins: 6
part F pins: 7
part G pins: 8
part H pins: 9
part A text: COM
part B text: COM
part C text: COM
part D text: COM
part E text: COM
part F text: COM
part G text: COM
part H text: COM

## 1K5/NS1C9R
designator RNW?, comment 1K5/NS1C9RA
weerstandsnetwerk, SIL, 1 gemeens.pin, 9 weerst., 1K5
footprint ws netwerk 9xR 1C (SIL)
part A pins: 1, 2
part B pins: 3
part C pins: 4
part D pins: 5
part E pins: 6
part F pins: 7
part G pins: 8
part H pins: 9
part I pins: 10
part A text: COM
part B text: COM
part C text: COM
part D text: COM
part E text: COM
part F text: COM
part G text: COM
part H text: COM
part I text: COM

## 1K5/V
designator R?
weerstand 1K5 0.6W, vertikaal
footprint ws 0.6W V
pins: 1, 2

## 1K6
designator R?
weerstand 1K6 0.6W
footprint ws 0.6W H
pins: 1, 2

## 1K6/2.5W
designator R?
weerstand 1K6 2.5W
footprint ws 2.5W H
pins: 1, 2

## 1K6/5W
designator R?
weerstand 1K6 5W
footprint ws 5W H
pins: 1, 2

## 1K6/7W
designator R?
weerstand 1K6 7W
footprint ws 7W H
pins: 1, 2

## 1K6/10W
designator R?
weerstand 1K6 10W
footprint ws 10W H
pins: 1, 2

## 1K6/402
designator R?
weerstand SMD402, 1K6
footprint smd C0402_0.35
pins: 1, 2

## 1K6/603
designator R?
weerstand SMD603, 1K6
footprint smd C0603_0.45
pins: 1, 2

## 1K6/805
designator R?
weerstand SMD805, 1K6
footprint smd C0805_0.50
pins: 1, 2

## 1K6/1206
designator R?
weerstand SMD1206, 1K6
footprint smd C1206_0.55
pins: 1, 2

## 1K6/V
designator R?
weerstand 1K6 0.6W, vertikaal
footprint ws 0.6W V
pins: 1, 2

## 1K8
designator R?
weerstand 1K8 0.6W
footprint ws 0.6W H
pins: 1, 2

## 1K8/2.5W
designator R?
weerstand 1K8 2.5W
footprint ws 2.5W H
pins: 1, 2

## 1K8/5W
designator R?
weerstand 1K8 5W
footprint ws 5W H
pins: 1, 2

## 1K8/7W
designator R?
weerstand 1K8 7W
footprint ws 7W H
pins: 1, 2

## 1K8/10W
designator R?
weerstand 1K8 10W
footprint ws 10W H
pins: 1, 2

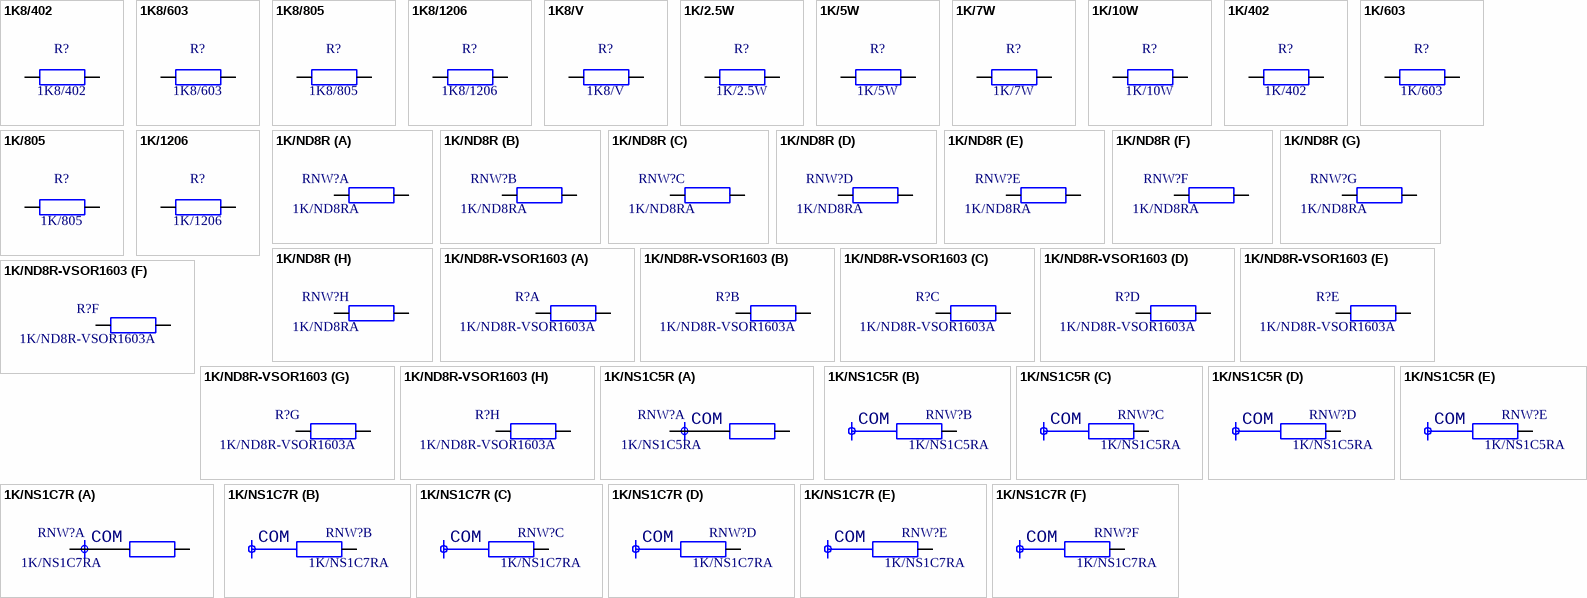
[diagram p26: symbols 1K8/402 to 1K/NS1C7R]

## 1K8/402
designator R?
weerstand SMD402, 1K8
footprint smd C0402_0.35
pins: 1, 2

## 1K8/603
designator R?
weerstand SMD603, 1K8
footprint smd C0603_0.45
pins: 1, 2

## 1K8/805
designator R?
weerstand SMD805, 1K8
footprint smd C0805_0.50
pins: 1, 2

## 1K8/1206
designator R?
weerstand SMD1206, 1K8
footprint smd C1206_0.55
pins: 1, 2

## 1K8/V
designator R?
weerstand 1K8 0.6W, vertikaal
footprint ws 0.6W V
pins: 1, 2

## 1K/2.5W
designator R?
weerstand 1K 2.5W
footprint ws 2.5W H
pins: 1, 2

## 1K/5W
designator R?
weerstand 1K 5W
footprint ws 5W H
pins: 1, 2

## 1K/7W
designator R?
weerstand 1K 7W
footprint ws 7W H
pins: 1, 2

## 1K/10W
designator R?
weerstand 1K 10W
footprint ws 10W H
pins: 1, 2

## 1K/402
designator R?
weerstand SMD402, 1K
footprint smd C0402_0.35
pins: 1, 2

## 1K/603
designator R?
weerstand SMD603, 1K
footprint smd C0603_0.45
pins: 1, 2

## 1K/805
designator R?
weerstand SMD805, 1K
footprint smd C0805_0.50
pins: 1, 2

## 1K/1206
designator R?
weerstand SMD1206, 1K
footprint smd C1206_0.55
pins: 1, 2

## 1K/ND8R
designator RNW?, comment 1K/ND8RA
weerstandsnetwerk, DIL, 8 x 1K
footprint icv DIP16-300
part A pins: 1, 16
part B pins: 2, 15
part C pins: 3, 14
part D pins: 4, 13
part E pins: 5, 12
part F pins: 6, 11
part G pins: 7, 10
part H pins: 8, 9

## 1K/ND8R-VSOR1603
designator R?, comment 1K/ND8R-VSOR1603A
weerstandsnetwerk, DIL, smd, Vishay VSOR1603, 8 x 1K
footprint smd SOICN/16
part A pins: 1, 16
part B pins: 2, 15
part C pins: 3, 14
part D pins: 4, 13
part E pins: 5, 12
part F pins: 6, 11
part G pins: 7, 10
part H pins: 8, 9

## 1K/NS1C5R
designator RNW?, comment 1K/NS1C5RA
weerstandsnetwerk, SIL, 1 gemeens.pin, 5 weerst., 1K
footprint ws netwerk 5xR 1C (SIL)
part A pins: 1, 2
part B pins: 3
part C pins: 4
part D pins: 5
part E pins: 6
part A text: COM
part B text: COM
part C text: COM
part D text: COM
part E text: COM

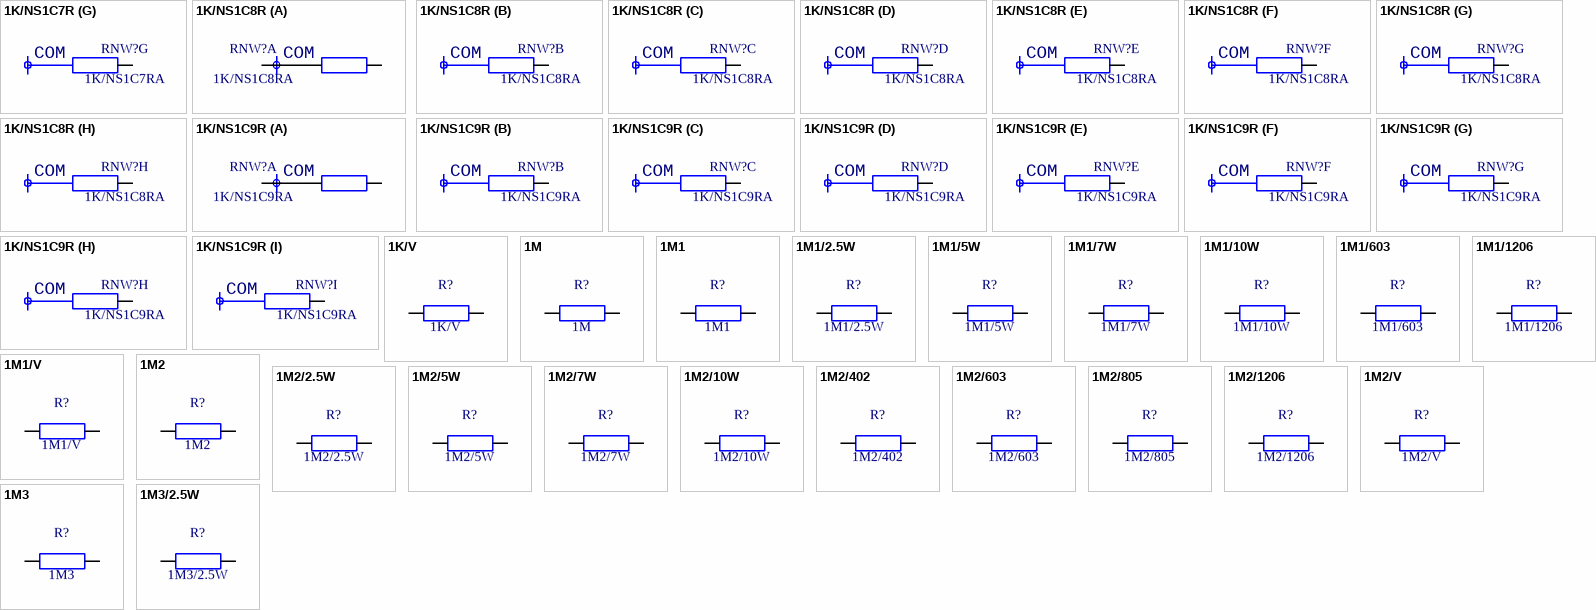
[diagram p27: symbols 1K/NS1C7R to 1M3/2.5W]

## 1K/NS1C7R
designator RNW?, comment 1K/NS1C7RA
weerstandsnetwerk, SIL, 1 gemeens.pin, 7 weerst., 1K
footprint ws netwerk 7xR 1C (SIL)
part A pins: 1, 2
part B pins: 3
part C pins: 4
part D pins: 5
part E pins: 6
part F pins: 7
part G pins: 8
part A text: COM
part B text: COM
part C text: COM
part D text: COM
part E text: COM
part F text: COM
part G text: COM

## 1K/NS1C8R
designator RNW?, comment 1K/NS1C8RA
weerstandsnetwerk, SIL, 1 gemeens.pin, 8 weerst., 1K
footprint ws netwerk 8xR 1C (SIL)
part A pins: 1, 2
part B pins: 3
part C pins: 4
part D pins: 5
part E pins: 6
part F pins: 7
part G pins: 8
part H pins: 9
part A text: COM
part B text: COM
part C text: COM
part D text: COM
part E text: COM
part F text: COM
part G text: COM
part H text: COM

## 1K/NS1C9R
designator RNW?, comment 1K/NS1C9RA
weerstandsnetwerk, SIL, 1 gemeens.pin, 9 weerst., 1K
footprint ws netwerk 9xR 1C (SIL)
part A pins: 1, 2
part B pins: 3
part C pins: 4
part D pins: 5
part E pins: 6
part F pins: 7
part G pins: 8
part H pins: 9
part I pins: 10
part A text: COM
part B text: COM
part C text: COM
part D text: COM
part E text: COM
part F text: COM
part G text: COM
part H text: COM
part I text: COM

## 1K/V
designator R?
weerstand 1K 0.6W, vertikaal
footprint ws 0.6W V
pins: 1, 2

## 1M
designator R?
weerstand 1M 0.6W
footprint ws 0.6W H
pins: 1, 2

## 1M1
designator R?
weerstand 1M1 0.6W
footprint ws 0.6W H
pins: 1, 2

## 1M1/2.5W
designator R?
weerstand 1M1 2.5W
footprint ws 2.5W H
pins: 1, 2

## 1M1/5W
designator R?
weerstand 1M1 5W
footprint ws 5W H
pins: 1, 2

## 1M1/7W
designator R?
weerstand 1M1 7W
footprint ws 7W H
pins: 1, 2

## 1M1/10W
designator R?
weerstand 1M1 10W
footprint ws 10W H
pins: 1, 2

## 1M1/603
designator R?
weerstand SMD603, 1M1
footprint smd C0603_0.45
pins: 1, 2

## 1M1/1206
designator R?
weerstand SMD1206, 1M1
footprint smd C1206_0.55
pins: 1, 2

## 1M1/V
designator R?
weerstand 1M1 0.6W, vertikaal
footprint ws 0.6W V
pins: 1, 2

## 1M2
designator R?
weerstand 1M2 0.6W
footprint ws 0.6W H
pins: 1, 2

## 1M2/2.5W
designator R?
weerstand 1M2 2.5W
footprint ws 2.5W H
pins: 1, 2

## 1M2/5W
designator R?
weerstand 1M2 5W
footprint ws 5W H
pins: 1, 2

## 1M2/7W
designator R?
weerstand 1M2 7W
footprint ws 7W H
pins: 1, 2

## 1M2/10W
designator R?
weerstand 1M2 10W
footprint ws 10W H
pins: 1, 2

## 1M2/402
designator R?
weerstand SMD402, 1M2
footprint smd C0402_0.35
pins: 1, 2

## 1M2/603
designator R?
weerstand SMD603, 1M2
footprint smd C0603_0.45
pins: 1, 2

## 1M2/805
designator R?
weerstand SMD805, 1M2
footprint smd C0805_0.50
pins: 1, 2

## 1M2/1206
designator R?
weerstand SMD1206, 1M2
footprint smd C1206_0.55
pins: 1, 2

## 1M2/V
designator R?
weerstand 1M2 0.6W, vertikaal
footprint ws 0.6W V
pins: 1, 2

## 1M3
designator R?
weerstand 1M3 0.6W
footprint ws 0.6W H
pins: 1, 2

## 1M3/2.5W
designator R?
weerstand 1M3 2.5W
footprint ws 2.5W H
pins: 1, 2

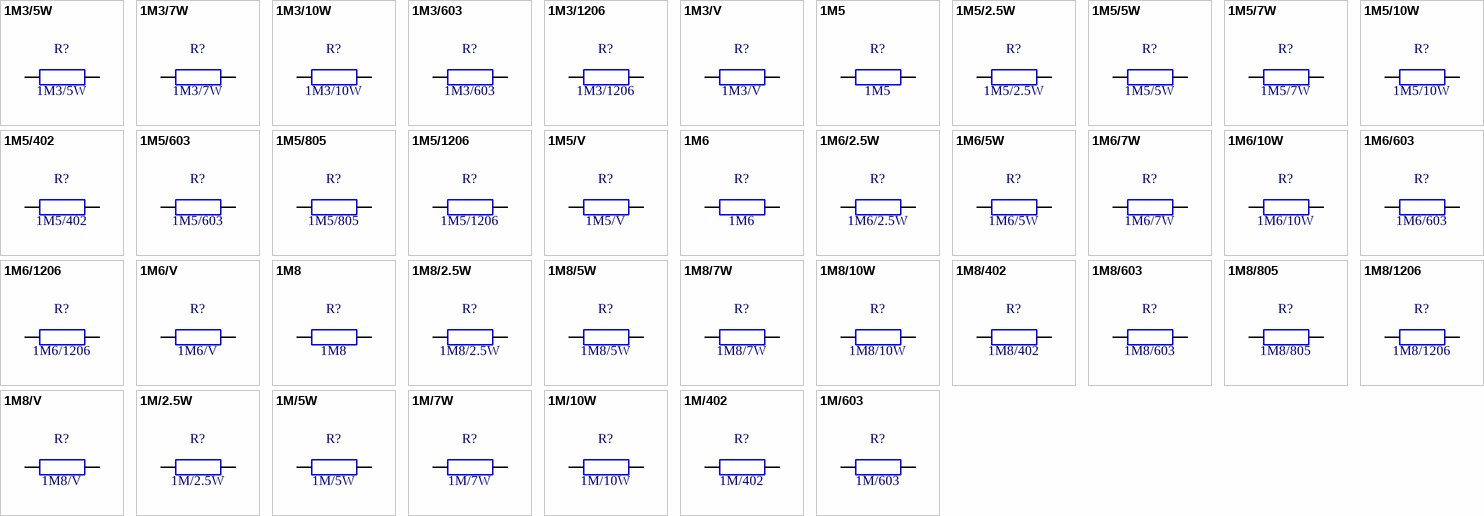
[diagram p28: symbols 1M3/5W to 1M/603]

## 1M3/5W
designator R?
weerstand 1M3 5W
footprint ws 5W H
pins: 1, 2

## 1M3/7W
designator R?
weerstand 1M3 7W
footprint ws 7W H
pins: 1, 2

## 1M3/10W
designator R?
weerstand 1M3 10W
footprint ws 10W H
pins: 1, 2

## 1M3/603
designator R?
weerstand SMD603, 1M3
footprint smd C0603_0.45
pins: 1, 2

## 1M3/1206
designator R?
weerstand SMD1206, 1M3
footprint smd C1206_0.55
pins: 1, 2

## 1M3/V
designator R?
weerstand 1M3 0.6W, vertikaal
footprint ws 0.6W V
pins: 1, 2

## 1M5
designator R?
weerstand 1M5 0.6W
footprint ws 0.6W H
pins: 1, 2

## 1M5/2.5W
designator R?
weerstand 1M5 2.5W
footprint ws 2.5W H
pins: 1, 2

## 1M5/5W
designator R?
weerstand 1M5 5W
footprint ws 5W H
pins: 1, 2

## 1M5/7W
designator R?
weerstand 1M5 7W
footprint ws 7W H
pins: 1, 2

## 1M5/10W
designator R?
weerstand 1M5 10W
footprint ws 10W H
pins: 1, 2

## 1M5/402
designator R?
weerstand SMD402, 1M5
footprint smd C0402_0.35
pins: 1, 2

## 1M5/603
designator R?
weerstand SMD603, 1M5
footprint smd C0603_0.45
pins: 1, 2

## 1M5/805
designator R?
weerstand SMD805, 1M5
footprint smd C0805_0.50
pins: 1, 2

## 1M5/1206
designator R?
weerstand SMD1206, 1M5
footprint smd C1206_0.55
pins: 1, 2

## 1M5/V
designator R?
weerstand 1M5 0.6W, vertikaal
footprint ws 0.6W V
pins: 1, 2

## 1M6
designator R?
weerstand 1M6 0.6W
footprint ws 0.6W H
pins: 1, 2

## 1M6/2.5W
designator R?
weerstand 1M6 2.5W
footprint ws 2.5W H
pins: 1, 2

## 1M6/5W
designator R?
weerstand 1M6 5W
footprint ws 5W H
pins: 1, 2

## 1M6/7W
designator R?
weerstand 1M6 7W
footprint ws 7W H
pins: 1, 2

## 1M6/10W
designator R?
weerstand 1M6 10W
footprint ws 10W H
pins: 1, 2

## 1M6/603
designator R?
weerstand SMD603, 1M6
footprint smd C0603_0.45
pins: 1, 2

## 1M6/1206
designator R?
weerstand SMD1206, 1M6
footprint smd C1206_0.55
pins: 1, 2

## 1M6/V
designator R?
weerstand 1M6 0.6W, vertikaal
footprint ws 0.6W V
pins: 1, 2

## 1M8
designator R?
weerstand 1M8 0.6W
footprint ws 0.6W H
pins: 1, 2

## 1M8/2.5W
designator R?
weerstand 1M8 2.5W
footprint ws 2.5W H
pins: 1, 2

## 1M8/5W
designator R?
weerstand 1M8 5W
footprint ws 5W H
pins: 1, 2

## 1M8/7W
designator R?
weerstand 1M8 7W
footprint ws 7W H
pins: 1, 2

## 1M8/10W
designator R?
weerstand 1M8 10W
footprint ws 10W H
pins: 1, 2

## 1M8/402
designator R?
weerstand SMD402, 1M8
footprint smd C0402_0.35
pins: 1, 2

## 1M8/603
designator R?
weerstand SMD603, 1M8
footprint smd C0603_0.45
pins: 1, 2

## 1M8/805
designator R?
weerstand SMD805, 1M8
footprint smd C0805_0.50
pins: 1, 2

## 1M8/1206
designator R?
weerstand SMD1206, 1M8
footprint smd C1206_0.55
pins: 1, 2

## 1M8/V
designator R?
weerstand 1M8 0.6W, vertikaal
footprint ws 0.6W V
pins: 1, 2

## 1M/2.5W
designator R?
weerstand 1M 2.5W
footprint ws 2.5W H
pins: 1, 2

## 1M/5W
designator R?
weerstand 1M 5W
footprint ws 5W H
pins: 1, 2

## 1M/7W
designator R?
weerstand 1M 7W
footprint ws 7W H
pins: 1, 2

## 1M/10W
designator R?
weerstand 1M 10W
footprint ws 10W H
pins: 1, 2

## 1M/402
designator R?
weerstand SMD402, 1M
footprint smd C0402_0.35
pins: 1, 2

## 1M/603
designator R?
weerstand SMD603, 1M
footprint smd C0603_0.45
pins: 1, 2

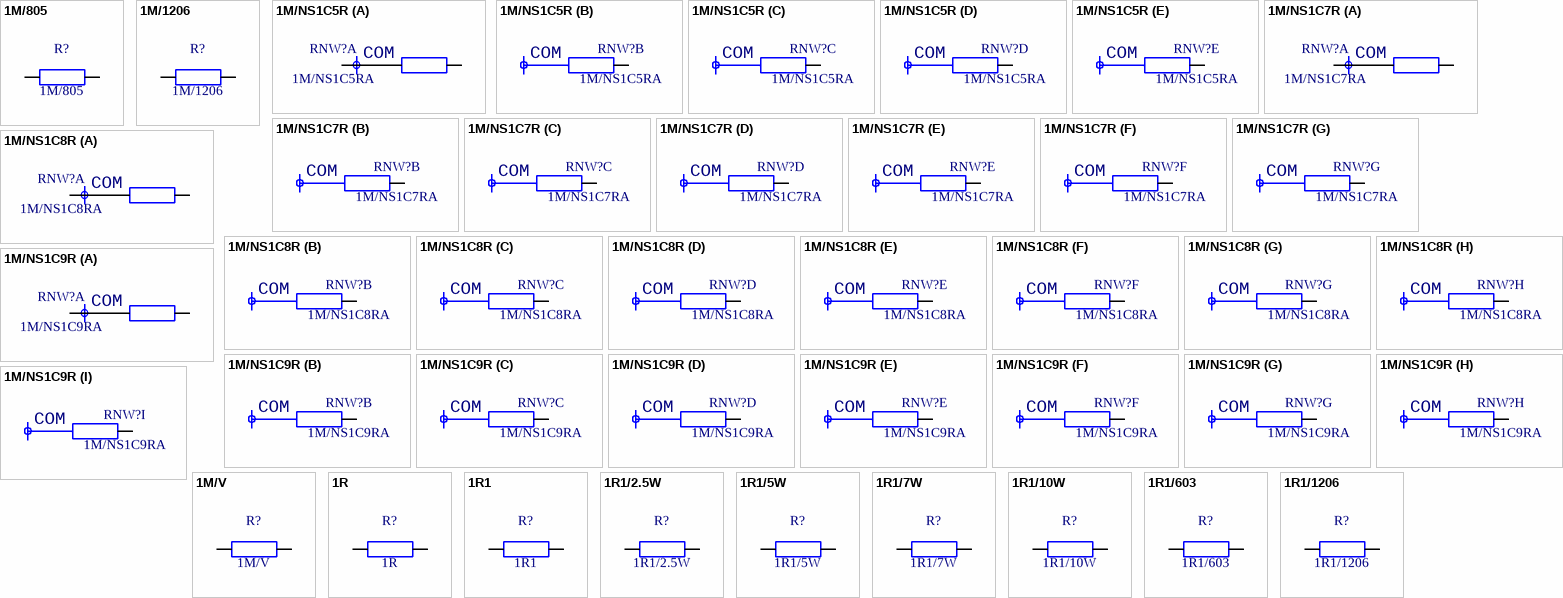
[diagram p29: symbols 1M/805 to 1R1/1206]

## 1M/805
designator R?
weerstand SMD805, 1M
footprint smd C0805_0.50
pins: 1, 2

## 1M/1206
designator R?
weerstand SMD1206, 1M
footprint smd C1206_0.55
pins: 1, 2

## 1M/NS1C5R
designator RNW?, comment 1M/NS1C5RA
weerstandsnetwerk, SIL, 1 gemeens.pin, 5 weerst., 1M
footprint ws netwerk 5xR 1C (SIL)
part A pins: 1, 2
part B pins: 3
part C pins: 4
part D pins: 5
part E pins: 6
part A text: COM
part B text: COM
part C text: COM
part D text: COM
part E text: COM

## 1M/NS1C7R
designator RNW?, comment 1M/NS1C7RA
weerstandsnetwerk, SIL, 1 gemeens.pin, 7 weerst., 1M
footprint ws netwerk 7xR 1C (SIL)
part A pins: 1, 2
part B pins: 3
part C pins: 4
part D pins: 5
part E pins: 6
part F pins: 7
part G pins: 8
part A text: COM
part B text: COM
part C text: COM
part D text: COM
part E text: COM
part F text: COM
part G text: COM

## 1M/NS1C8R
designator RNW?, comment 1M/NS1C8RA
weerstandsnetwerk, SIL, 1 gemeens.pin, 8 weerst., 1M
footprint ws netwerk 8xR 1C (SIL)
part A pins: 1, 2
part B pins: 3
part C pins: 4
part D pins: 5
part E pins: 6
part F pins: 7
part G pins: 8
part H pins: 9
part A text: COM
part B text: COM
part C text: COM
part D text: COM
part E text: COM
part F text: COM
part G text: COM
part H text: COM

## 1M/NS1C9R
designator RNW?, comment 1M/NS1C9RA
weerstandsnetwerk, SIL, 1 gemeens.pin, 9 weerst., 1M
footprint ws netwerk 9xR 1C (SIL)
part A pins: 1, 2
part B pins: 3
part C pins: 4
part D pins: 5
part E pins: 6
part F pins: 7
part G pins: 8
part H pins: 9
part I pins: 10
part A text: COM
part B text: COM
part C text: COM
part D text: COM
part E text: COM
part F text: COM
part G text: COM
part H text: COM
part I text: COM

## 1M/V
designator R?
weerstand 1M 0.6W, vertikaal
footprint ws 0.6W V
pins: 1, 2

## 1R
designator R?
weerstand 1R 0.6W
footprint ws 0.6W H
pins: 1, 2

## 1R1
designator R?
weerstand 1R1 0.6W
footprint ws 0.6W H
pins: 1, 2

## 1R1/2.5W
designator R?
weerstand 1R1 2.5W
footprint ws 2.5W H
pins: 1, 2

## 1R1/5W
designator R?
weerstand 1R1 5W
footprint ws 5W H
pins: 1, 2

## 1R1/7W
designator R?
weerstand 1R1 7W
footprint ws 7W H
pins: 1, 2

## 1R1/10W
designator R?
weerstand 1R1 10W
footprint ws 10W H
pins: 1, 2

## 1R1/603
designator R?
weerstand SMD603, 1R1
footprint smd C0603_0.45
pins: 1, 2

## 1R1/1206
designator R?
weerstand SMD1206, 1R1
footprint smd C1206_0.55
pins: 1, 2

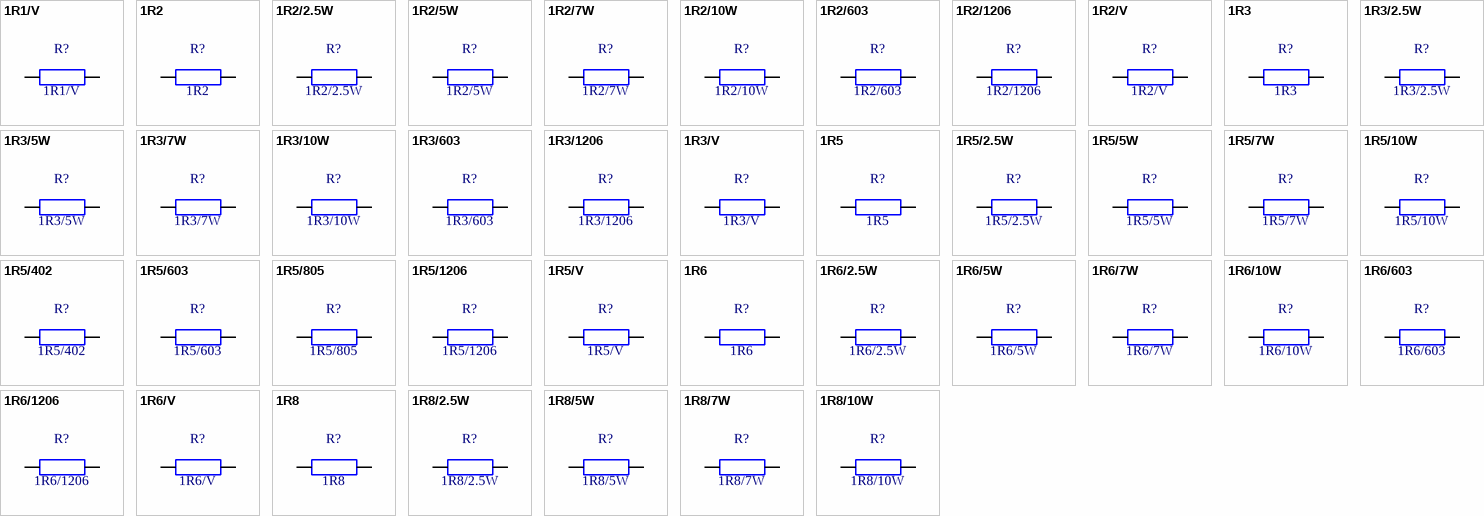
[diagram p30: symbols 1R1/V to 1R8/10W]

## 1R1/V
designator R?
weerstand 1R1 0.6W, vertikaal
footprint ws 0.6W V
pins: 1, 2

## 1R2
designator R?
weerstand 1R2 0.6W
footprint ws 0.6W H
pins: 1, 2

## 1R2/2.5W
designator R?
weerstand 1R2 2.5W
footprint ws 2.5W H
pins: 1, 2

## 1R2/5W
designator R?
weerstand 1R2 5W
footprint ws 5W H
pins: 1, 2

## 1R2/7W
designator R?
weerstand 1R2 7W
footprint ws 7W H
pins: 1, 2

## 1R2/10W
designator R?
weerstand 1R2 10W
footprint ws 10W H
pins: 1, 2

## 1R2/603
designator R?
weerstand SMD603, 1R2
footprint smd C0603_0.45
pins: 1, 2

## 1R2/1206
designator R?
weerstand SMD1206, 1R2
footprint smd C1206_0.55
pins: 1, 2

## 1R2/V
designator R?
weerstand 1R2 0.6W, vertikaal
footprint ws 0.6W V
pins: 1, 2

## 1R3
designator R?
weerstand 1R3 0.6W
footprint ws 0.6W H
pins: 1, 2

## 1R3/2.5W
designator R?
weerstand 1R3 2.5W
footprint ws 2.5W H
pins: 1, 2

## 1R3/5W
designator R?
weerstand 1R3 5W
footprint ws 5W H
pins: 1, 2

## 1R3/7W
designator R?
weerstand 1R3 7W
footprint ws 7W H
pins: 1, 2

## 1R3/10W
designator R?
weerstand 1R3 10W
footprint ws 10W H
pins: 1, 2

## 1R3/603
designator R?
weerstand SMD603, 1R3
footprint smd C0603_0.45
pins: 1, 2

## 1R3/1206
designator R?
weerstand SMD1206, 1R3
footprint smd C1206_0.55
pins: 1, 2

## 1R3/V
designator R?
weerstand 1R3 0.6W, vertikaal
footprint ws 0.6W V
pins: 1, 2

## 1R5
designator R?
weerstand 1R5 0.6W
footprint ws 0.6W H
pins: 1, 2

## 1R5/2.5W
designator R?
weerstand 1R5 2.5W
footprint ws 2.5W H
pins: 1, 2

## 1R5/5W
designator R?
weerstand 1R5 5W
footprint ws 5W H
pins: 1, 2